# Altium integrated library Altera Cyclone.IntLib: 144 symbols (part 8 of 21)
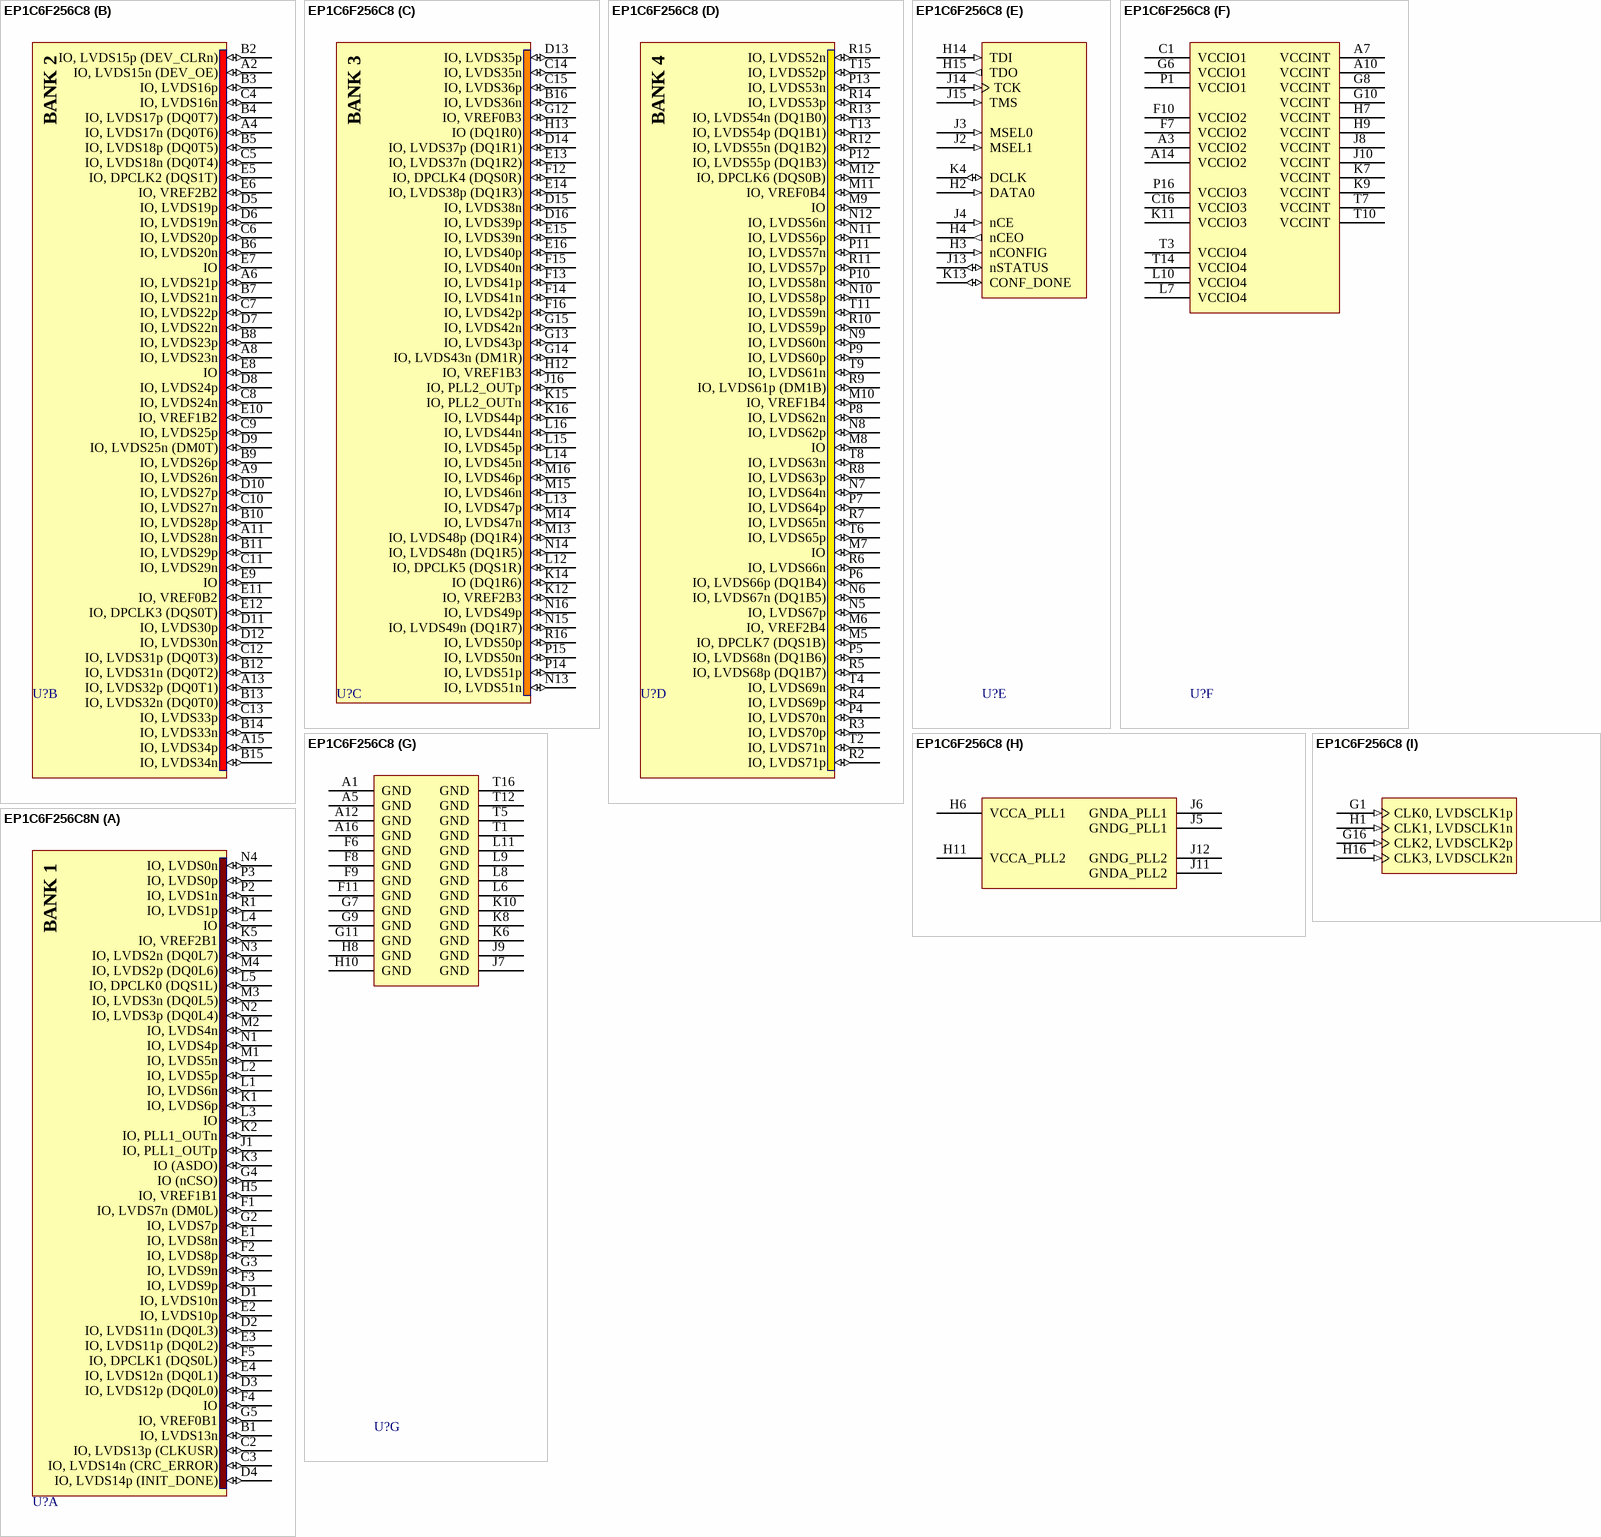
[diagram p160: symbols EP1C6F256C8 to EP1C6F256C8N]

## EP1C6F256C8
designator U?
Cyclone Family, 1.5V FPGA, 185 I/O Pins, 2 x PLLs, Commercial Grade, Speed Grade 8; DatasheetVersion: ver2.4, May-2008; PackageVersion: ver16.0, Dec-2009; PackageReference: FBGA256; PackageDescription: 256-Ball FineLine Ball Grid Array (FBGA256) - Option 1 - Wire Bond; Code_JEDEC: MS-034-AAF-1; Code_IPC: BGA100P16X16-256; ComponentLink1Description: Manufacturer URL; ComponentLink1URL: http://www.altera.com/; ComponentLink2Description: Handbook; ComponentLink2URL: http://www.altera.com/literature/hb/cyc/cyc_c5v1.pdf; ComponentLink3Description: Package Specification; ComponentLink3URL: http://www.altera.com/literature/ds/dspkg.pdf
footprint FBGA256 (BGA, 256-Leads, Body 17x17mm, Pitch 1mm)
part A pins: B1 IO, LVDS13n (io), C2 IO, LVDS13p (CLKUSR) (io), C3 IO, LVDS14n (CRC_ERROR) (io), D1 IO, LVDS10n (io), D2 IO, LVDS11n (DQ0L3) (io), D3 IO, LVDS12p (DQ0L0) (io), D4 IO, LVDS14p (INIT_DONE) (io), E1 IO, LVDS8n (io), E2 IO, LVDS10p (io), E3 IO, LVDS11p (DQ0L2) (io), E4 IO, LVDS12n (DQ0L1) (io), F1 IO, LVDS7n (DM0L) (io), F2 IO, LVDS8p (io), F3 IO, LVDS9p (io), F4 IO (io), F5 IO, DPCLK1 (DQS0L) (io), G2 IO, LVDS7p (io), G3 IO, LVDS9n (io), G4 IO (nCSO) (io), G5 IO, VREF0B1 (io), H5 IO, VREF1B1 (io), J1 IO, PLL1_OUTp (io), K1 IO, LVDS6p (io), K2 IO, PLL1_OUTn (io), K3 IO (ASDO) (io), K5 IO, VREF2B1 (io), L1 IO, LVDS6n (io), L2 IO, LVDS5p (io), L3 IO (io), L4 IO (io), L5 IO, DPCLK0 (DQS1L) (io), M1 IO, LVDS5n (io), M2 IO, LVDS4n (io), M3 IO, LVDS3n (DQ0L5) (io), M4 IO, LVDS2p (DQ0L6) (io), N1 IO, LVDS4p (io), N2 IO, LVDS3p (DQ0L4) (io), N3 IO, LVDS2n (DQ0L7) (io), N4 IO, LVDS0n (io), P2 IO, LVDS1n (io), P3 IO, LVDS0p (io), R1 IO, LVDS1p (io)
part B pins: A2 IO, LVDS15n (DEV_OE) (io), A4 IO, LVDS17n (DQ0T6) (io), A6 IO, LVDS21p (io), A8 IO, LVDS23n (io), A9 IO, LVDS26n (io), A11 IO, LVDS28n (io), A13 IO, LVDS32p (DQ0T1) (io), A15 IO, LVDS34p (io), B2 IO, LVDS15p (DEV_CLRn) (io), B3 IO, LVDS16p (io), B4 IO, LVDS17p (DQ0T7) (io), B5 IO, LVDS18p (DQ0T5) (io), B6 IO, LVDS20n (io), B7 IO, LVDS21n (io), B8 IO, LVDS23p (io), B9 IO, LVDS26p (io), B10 IO, LVDS28p (io), B11 IO, LVDS29p (io), B12 IO, LVDS31n (DQ0T2) (io), B13 IO, LVDS32n (DQ0T0) (io), B14 IO, LVDS33n (io), B15 IO, LVDS34n (io), C4 IO, LVDS16n (io), C5 IO, LVDS18n (DQ0T4) (io), C6 IO, LVDS20p (io), C7 IO, LVDS22p (io), C8 IO, LVDS24n (io), C9 IO, LVDS25p (io), C10 IO, LVDS27n (io), C11 IO, LVDS29n (io), C12 IO, LVDS31p (DQ0T3) (io), C13 IO, LVDS33p (io), D5 IO, LVDS19p (io), D6 IO, LVDS19n (io), D7 IO, LVDS22n (io), D8 IO, LVDS24p (io), D9 IO, LVDS25n (DM0T) (io), D10 IO, LVDS27p (io), D11 IO, LVDS30p (io), D12 IO, LVDS30n (io), E5 IO, DPCLK2 (DQS1T) (io), E6 IO, VREF2B2 (io), E7 IO (io), E8 IO (io), E9 IO (io), E10 IO, VREF1B2 (io), E11 IO, VREF0B2 (io), E12 IO, DPCLK3 (DQS0T) (io)
part C pins: B16 IO, LVDS36n (io), C14 IO, LVDS35n (io), C15 IO, LVDS36p (io), D13 IO, LVDS35p (io), D14 IO, LVDS37p (DQ1R1) (io), D15 IO, LVDS38n (io), D16 IO, LVDS39p (io), E13 IO, LVDS37n (DQ1R2) (io), E14 IO, LVDS38p (DQ1R3) (io), E15 IO, LVDS39n (io), E16 IO, LVDS40p (io), F12 IO, DPCLK4 (DQS0R) (io), F13 IO, LVDS41p (io), F14 IO, LVDS41n (io), F15 IO, LVDS40n (io), F16 IO, LVDS42p (io), G12 IO, VREF0B3 (io), G13 IO, LVDS43p (io), G14 IO, LVDS43n (DM1R) (io), G15 IO, LVDS42n (io), H12 IO, VREF1B3 (io), H13 IO (DQ1R0) (io), J16 IO, PLL2_OUTp (io), K12 IO, VREF2B3 (io), K14 IO (DQ1R6) (io), K15 IO, PLL2_OUTn (io), K16 IO, LVDS44p (io), L12 IO, DPCLK5 (DQS1R) (io), L13 IO, LVDS47p (io), L14 IO, LVDS45n (io), L15 IO, LVDS45p (io), L16 IO, LVDS44n (io), M13 IO, LVDS48p (DQ1R4) (io), M14 IO, LVDS47n (io), M15 IO, LVDS46n (io), M16 IO, LVDS46p (io), N13 IO, LVDS51n (io), N14 IO, LVDS48n (DQ1R5) (io), N15 IO, LVDS49n (DQ1R7) (io), N16 IO, LVDS49p (io), P14 IO, LVDS51p (io), P15 IO, LVDS50n (io), R16 IO, LVDS50p (io)
part D pins: M5 IO, DPCLK7 (DQS1B) (io), M6 IO, VREF2B4 (io), M7 IO (io), M8 IO (io), M9 IO (io), M10 IO, VREF1B4 (io), M11 IO, VREF0B4 (io), M12 IO, DPCLK6 (DQS0B) (io), N5 IO, LVDS67p (io), N6 IO, LVDS67n (DQ1B5) (io), N7 IO, LVDS64n (io), N8 IO, LVDS62p (io), N9 IO, LVDS60n (io), N10 IO, LVDS58p (io), N11 IO, LVDS56p (io), N12 IO, LVDS56n (io), P4 IO, LVDS70n (io), P5 IO, LVDS68n (DQ1B6) (io), P6 IO, LVDS66p (DQ1B4) (io), P7 IO, LVDS64p (io), P8 IO, LVDS62n (io), P9 IO, LVDS60p (io), P10 IO, LVDS58n (io), P11 IO, LVDS57n (io), P12 IO, LVDS55p (DQ1B3) (io), P13 IO, LVDS53n (io), R2 IO, LVDS71p (io), R3 IO, LVDS70p (io), R4 IO, LVDS69p (io), R5 IO, LVDS68p (DQ1B7) (io), R6 IO, LVDS66n (io), R7 IO, LVDS65n (io), R8 IO, LVDS63p (io), R9 IO, LVDS61p (DM1B) (io), R10 IO, LVDS59p (io), R11 IO, LVDS57p (io), R12 IO, LVDS55n (DQ1B2) (io), R13 IO, LVDS54n (DQ1B0) (io), R14 IO, LVDS53p (io), R15 IO, LVDS52n (io), T2 IO, LVDS71n (io), T4 IO, LVDS69n (io), T6 IO, LVDS65p (io), T8 IO, LVDS63n (io), T9 IO, LVDS61n (io), T11 IO, LVDS59n (io), T13 IO, LVDS54p (DQ1B1) (io), T15 IO, LVDS52p (io)
part E pins: H2 DATA0 (in), H3 nCONFIG (in), H4 nCEO (out), H14 TDI (in), H15 TDO (out), J2 MSEL1 (in), J3 MSEL0 (in), J4 nCE (in), J13 nSTATUS (io), J14 TCK (in), J15 TMS (in), K4 DCLK (io), K13 CONF_DONE (io)
part F pins: A3 VCCIO2 (power), A7 VCCINT (power), A10 VCCINT (power), A14 VCCIO2 (power), C1 VCCIO1 (power), C16 VCCIO3 (power), F7 VCCIO2 (power), F10 VCCIO2 (power), G6 VCCIO1 (power), G8 VCCINT (power), G10 VCCINT (power), H7 VCCINT (power), H9 VCCINT (power), J8 VCCINT (power), J10 VCCINT (power), K7 VCCINT (power), K9 VCCINT (power), K11 VCCIO3 (power), L7 VCCIO4 (power), L10 VCCIO4 (power), P1 VCCIO1 (power), P16 VCCIO3 (power), T3 VCCIO4 (power), T7 VCCINT (power), T10 VCCINT (power), T14 VCCIO4 (power)
part G pins: A1 GND (power), A5 GND (power), A12 GND (power), A16 GND (power), F6 GND (power), F8 GND (power), F9 GND (power), F11 GND (power), G7 GND (power), G9 GND (power), G11 GND (power), H8 GND (power), H10 GND (power), J7 GND (power), J9 GND (power), K6 GND (power), K8 GND (power), K10 GND (power), L6 GND (power), L8 GND (power), L9 GND (power), L11 GND (power), T1 GND (power), T5 GND (power), T12 GND (power), T16 GND (power)
part H pins: H6 VCCA_PLL1 (power), H11 VCCA_PLL2 (power), J5 GNDG_PLL1 (power), J6 GNDA_PLL1 (power), J11 GNDA_PLL2 (power), J12 GNDG_PLL2 (power)
part I pins: G1 CLK0, LVDSCLK1p (in), G16 CLK2, LVDSCLK2p (in), H1 CLK1, LVDSCLK1n (in), H16 CLK3, LVDSCLK2n (in)
part A text: BANK 1
part B text: BANK 2
part C text: BANK 3
part D text: BANK 4

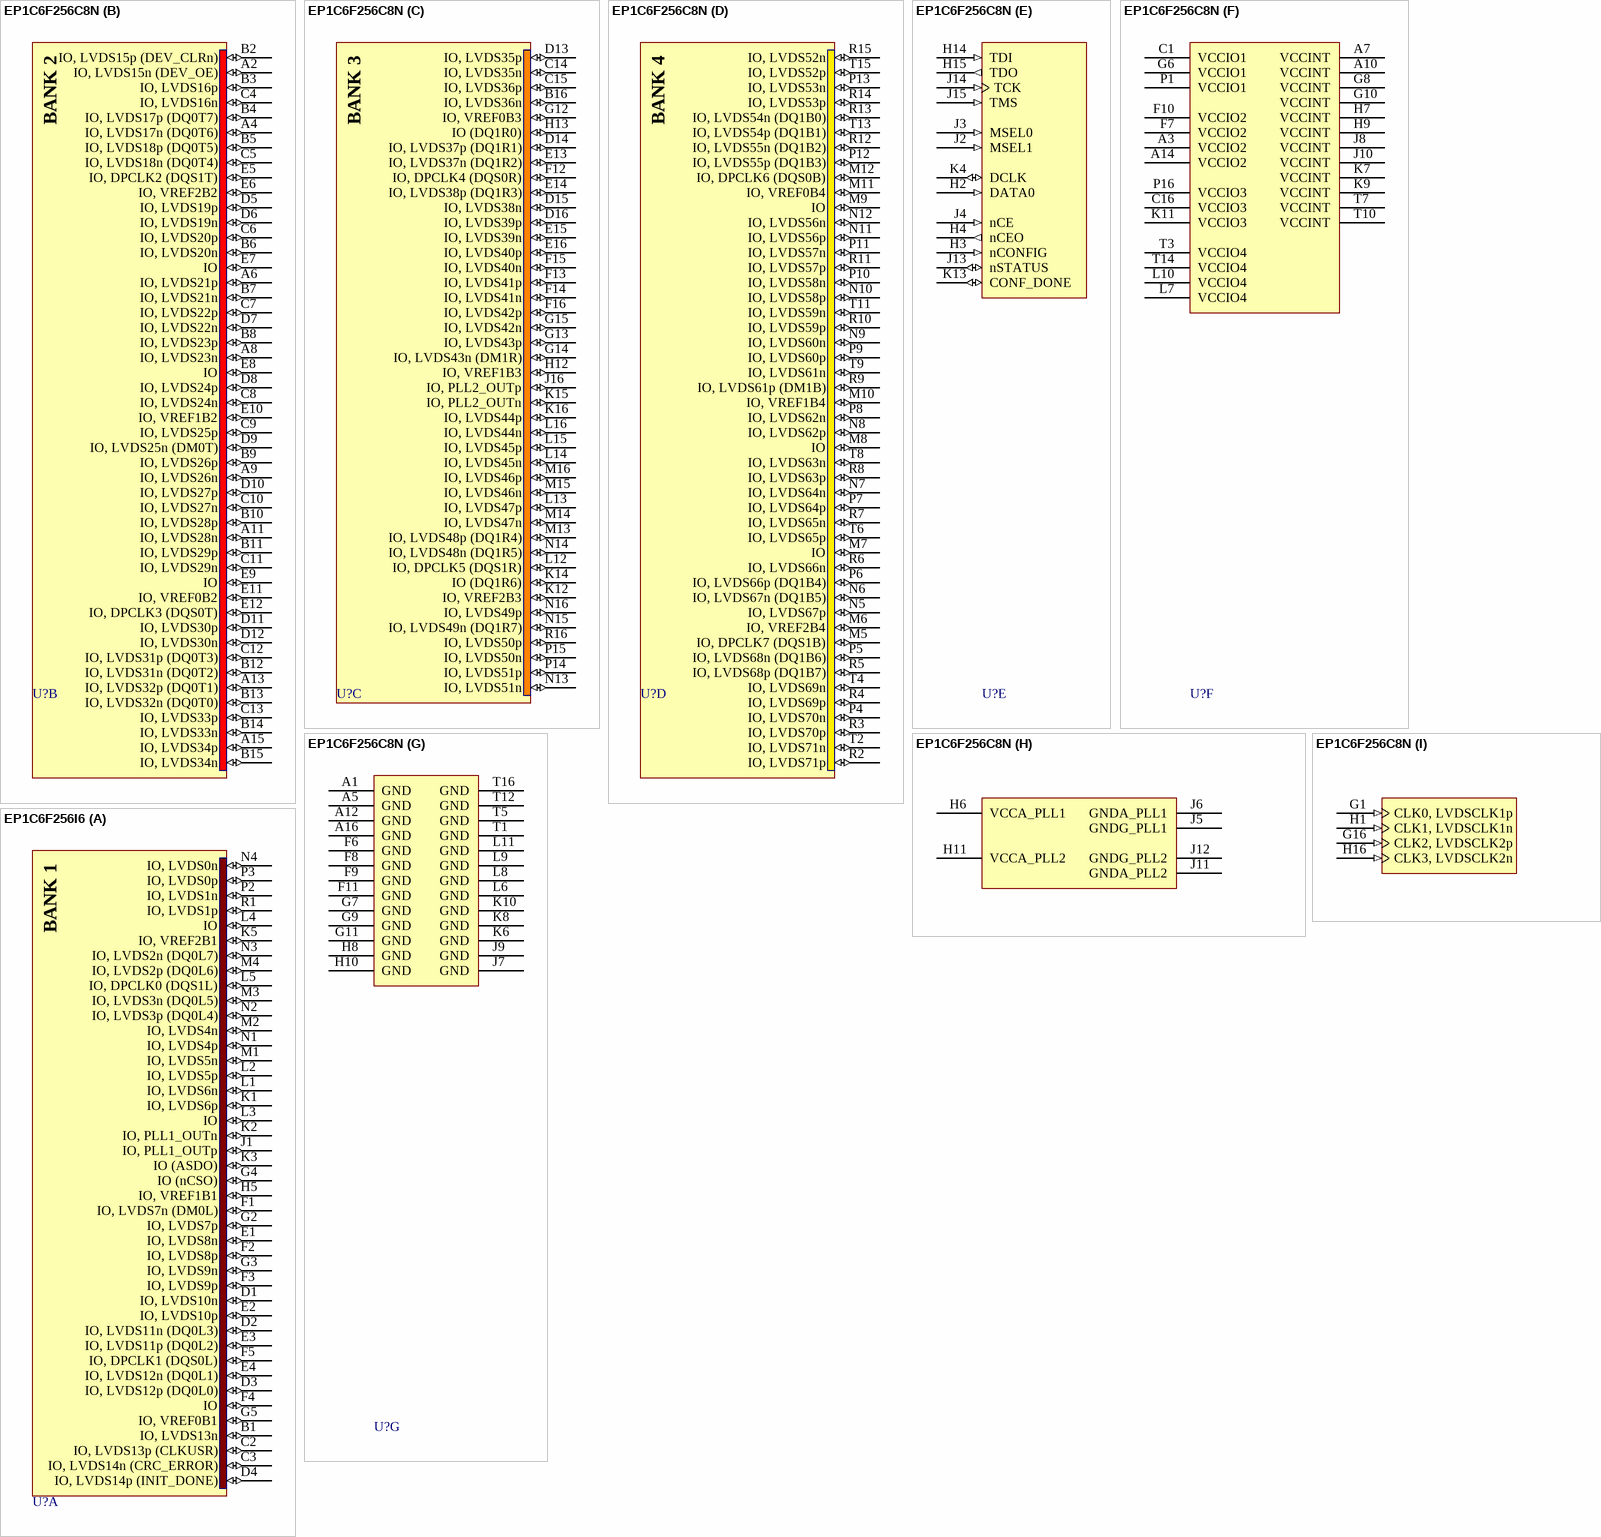
[diagram p53: symbols EP1C6F256C8N to EP1C6F256I6]

## EP1C6F256C8N
designator U?
Cyclone Family, 1.5V FPGA, 185 I/O Pins, 2 x PLLs, Commercial Grade, Speed Grade 8, Pb-Free; DatasheetVersion: ver2.4, May-2008; PackageVersion: ver16.0, Dec-2009; PackageReference: FBGA256; PackageDescription: 256-Ball FineLine Ball Grid Array (FBGA256) - Option 1 - Wire Bond; Code_JEDEC: MS-034-AAF-1; Code_IPC: BGA100P16X16-256; ComponentLink1Description: Manufacturer URL; ComponentLink1URL: http://www.altera.com/; ComponentLink2Description: Handbook; ComponentLink2URL: http://www.altera.com/literature/hb/cyc/cyc_c5v1.pdf; ComponentLink3Description: Package Specification; ComponentLink3URL: http://www.altera.com/literature/ds/dspkg.pdf
footprint FBGA256 (BGA, 256-Leads, Body 17x17mm, Pitch 1mm)
part A pins: B1 IO, LVDS13n (io), C2 IO, LVDS13p (CLKUSR) (io), C3 IO, LVDS14n (CRC_ERROR) (io), D1 IO, LVDS10n (io), D2 IO, LVDS11n (DQ0L3) (io), D3 IO, LVDS12p (DQ0L0) (io), D4 IO, LVDS14p (INIT_DONE) (io), E1 IO, LVDS8n (io), E2 IO, LVDS10p (io), E3 IO, LVDS11p (DQ0L2) (io), E4 IO, LVDS12n (DQ0L1) (io), F1 IO, LVDS7n (DM0L) (io), F2 IO, LVDS8p (io), F3 IO, LVDS9p (io), F4 IO (io), F5 IO, DPCLK1 (DQS0L) (io), G2 IO, LVDS7p (io), G3 IO, LVDS9n (io), G4 IO (nCSO) (io), G5 IO, VREF0B1 (io), H5 IO, VREF1B1 (io), J1 IO, PLL1_OUTp (io), K1 IO, LVDS6p (io), K2 IO, PLL1_OUTn (io), K3 IO (ASDO) (io), K5 IO, VREF2B1 (io), L1 IO, LVDS6n (io), L2 IO, LVDS5p (io), L3 IO (io), L4 IO (io), L5 IO, DPCLK0 (DQS1L) (io), M1 IO, LVDS5n (io), M2 IO, LVDS4n (io), M3 IO, LVDS3n (DQ0L5) (io), M4 IO, LVDS2p (DQ0L6) (io), N1 IO, LVDS4p (io), N2 IO, LVDS3p (DQ0L4) (io), N3 IO, LVDS2n (DQ0L7) (io), N4 IO, LVDS0n (io), P2 IO, LVDS1n (io), P3 IO, LVDS0p (io), R1 IO, LVDS1p (io)
part B pins: A2 IO, LVDS15n (DEV_OE) (io), A4 IO, LVDS17n (DQ0T6) (io), A6 IO, LVDS21p (io), A8 IO, LVDS23n (io), A9 IO, LVDS26n (io), A11 IO, LVDS28n (io), A13 IO, LVDS32p (DQ0T1) (io), A15 IO, LVDS34p (io), B2 IO, LVDS15p (DEV_CLRn) (io), B3 IO, LVDS16p (io), B4 IO, LVDS17p (DQ0T7) (io), B5 IO, LVDS18p (DQ0T5) (io), B6 IO, LVDS20n (io), B7 IO, LVDS21n (io), B8 IO, LVDS23p (io), B9 IO, LVDS26p (io), B10 IO, LVDS28p (io), B11 IO, LVDS29p (io), B12 IO, LVDS31n (DQ0T2) (io), B13 IO, LVDS32n (DQ0T0) (io), B14 IO, LVDS33n (io), B15 IO, LVDS34n (io), C4 IO, LVDS16n (io), C5 IO, LVDS18n (DQ0T4) (io), C6 IO, LVDS20p (io), C7 IO, LVDS22p (io), C8 IO, LVDS24n (io), C9 IO, LVDS25p (io), C10 IO, LVDS27n (io), C11 IO, LVDS29n (io), C12 IO, LVDS31p (DQ0T3) (io), C13 IO, LVDS33p (io), D5 IO, LVDS19p (io), D6 IO, LVDS19n (io), D7 IO, LVDS22n (io), D8 IO, LVDS24p (io), D9 IO, LVDS25n (DM0T) (io), D10 IO, LVDS27p (io), D11 IO, LVDS30p (io), D12 IO, LVDS30n (io), E5 IO, DPCLK2 (DQS1T) (io), E6 IO, VREF2B2 (io), E7 IO (io), E8 IO (io), E9 IO (io), E10 IO, VREF1B2 (io), E11 IO, VREF0B2 (io), E12 IO, DPCLK3 (DQS0T) (io)
part C pins: B16 IO, LVDS36n (io), C14 IO, LVDS35n (io), C15 IO, LVDS36p (io), D13 IO, LVDS35p (io), D14 IO, LVDS37p (DQ1R1) (io), D15 IO, LVDS38n (io), D16 IO, LVDS39p (io), E13 IO, LVDS37n (DQ1R2) (io), E14 IO, LVDS38p (DQ1R3) (io), E15 IO, LVDS39n (io), E16 IO, LVDS40p (io), F12 IO, DPCLK4 (DQS0R) (io), F13 IO, LVDS41p (io), F14 IO, LVDS41n (io), F15 IO, LVDS40n (io), F16 IO, LVDS42p (io), G12 IO, VREF0B3 (io), G13 IO, LVDS43p (io), G14 IO, LVDS43n (DM1R) (io), G15 IO, LVDS42n (io), H12 IO, VREF1B3 (io), H13 IO (DQ1R0) (io), J16 IO, PLL2_OUTp (io), K12 IO, VREF2B3 (io), K14 IO (DQ1R6) (io), K15 IO, PLL2_OUTn (io), K16 IO, LVDS44p (io), L12 IO, DPCLK5 (DQS1R) (io), L13 IO, LVDS47p (io), L14 IO, LVDS45n (io), L15 IO, LVDS45p (io), L16 IO, LVDS44n (io), M13 IO, LVDS48p (DQ1R4) (io), M14 IO, LVDS47n (io), M15 IO, LVDS46n (io), M16 IO, LVDS46p (io), N13 IO, LVDS51n (io), N14 IO, LVDS48n (DQ1R5) (io), N15 IO, LVDS49n (DQ1R7) (io), N16 IO, LVDS49p (io), P14 IO, LVDS51p (io), P15 IO, LVDS50n (io), R16 IO, LVDS50p (io)
part D pins: M5 IO, DPCLK7 (DQS1B) (io), M6 IO, VREF2B4 (io), M7 IO (io), M8 IO (io), M9 IO (io), M10 IO, VREF1B4 (io), M11 IO, VREF0B4 (io), M12 IO, DPCLK6 (DQS0B) (io), N5 IO, LVDS67p (io), N6 IO, LVDS67n (DQ1B5) (io), N7 IO, LVDS64n (io), N8 IO, LVDS62p (io), N9 IO, LVDS60n (io), N10 IO, LVDS58p (io), N11 IO, LVDS56p (io), N12 IO, LVDS56n (io), P4 IO, LVDS70n (io), P5 IO, LVDS68n (DQ1B6) (io), P6 IO, LVDS66p (DQ1B4) (io), P7 IO, LVDS64p (io), P8 IO, LVDS62n (io), P9 IO, LVDS60p (io), P10 IO, LVDS58n (io), P11 IO, LVDS57n (io), P12 IO, LVDS55p (DQ1B3) (io), P13 IO, LVDS53n (io), R2 IO, LVDS71p (io), R3 IO, LVDS70p (io), R4 IO, LVDS69p (io), R5 IO, LVDS68p (DQ1B7) (io), R6 IO, LVDS66n (io), R7 IO, LVDS65n (io), R8 IO, LVDS63p (io), R9 IO, LVDS61p (DM1B) (io), R10 IO, LVDS59p (io), R11 IO, LVDS57p (io), R12 IO, LVDS55n (DQ1B2) (io), R13 IO, LVDS54n (DQ1B0) (io), R14 IO, LVDS53p (io), R15 IO, LVDS52n (io), T2 IO, LVDS71n (io), T4 IO, LVDS69n (io), T6 IO, LVDS65p (io), T8 IO, LVDS63n (io), T9 IO, LVDS61n (io), T11 IO, LVDS59n (io), T13 IO, LVDS54p (DQ1B1) (io), T15 IO, LVDS52p (io)
part E pins: H2 DATA0 (in), H3 nCONFIG (in), H4 nCEO (out), H14 TDI (in), H15 TDO (out), J2 MSEL1 (in), J3 MSEL0 (in), J4 nCE (in), J13 nSTATUS (io), J14 TCK (in), J15 TMS (in), K4 DCLK (io), K13 CONF_DONE (io)
part F pins: A3 VCCIO2 (power), A7 VCCINT (power), A10 VCCINT (power), A14 VCCIO2 (power), C1 VCCIO1 (power), C16 VCCIO3 (power), F7 VCCIO2 (power), F10 VCCIO2 (power), G6 VCCIO1 (power), G8 VCCINT (power), G10 VCCINT (power), H7 VCCINT (power), H9 VCCINT (power), J8 VCCINT (power), J10 VCCINT (power), K7 VCCINT (power), K9 VCCINT (power), K11 VCCIO3 (power), L7 VCCIO4 (power), L10 VCCIO4 (power), P1 VCCIO1 (power), P16 VCCIO3 (power), T3 VCCIO4 (power), T7 VCCINT (power), T10 VCCINT (power), T14 VCCIO4 (power)
part G pins: A1 GND (power), A5 GND (power), A12 GND (power), A16 GND (power), F6 GND (power), F8 GND (power), F9 GND (power), F11 GND (power), G7 GND (power), G9 GND (power), G11 GND (power), H8 GND (power), H10 GND (power), J7 GND (power), J9 GND (power), K6 GND (power), K8 GND (power), K10 GND (power), L6 GND (power), L8 GND (power), L9 GND (power), L11 GND (power), T1 GND (power), T5 GND (power), T12 GND (power), T16 GND (power)
part H pins: H6 VCCA_PLL1 (power), H11 VCCA_PLL2 (power), J5 GNDG_PLL1 (power), J6 GNDA_PLL1 (power), J11 GNDA_PLL2 (power), J12 GNDG_PLL2 (power)
part I pins: G1 CLK0, LVDSCLK1p (in), G16 CLK2, LVDSCLK2p (in), H1 CLK1, LVDSCLK1n (in), H16 CLK3, LVDSCLK2n (in)
part A text: BANK 1
part B text: BANK 2
part C text: BANK 3
part D text: BANK 4

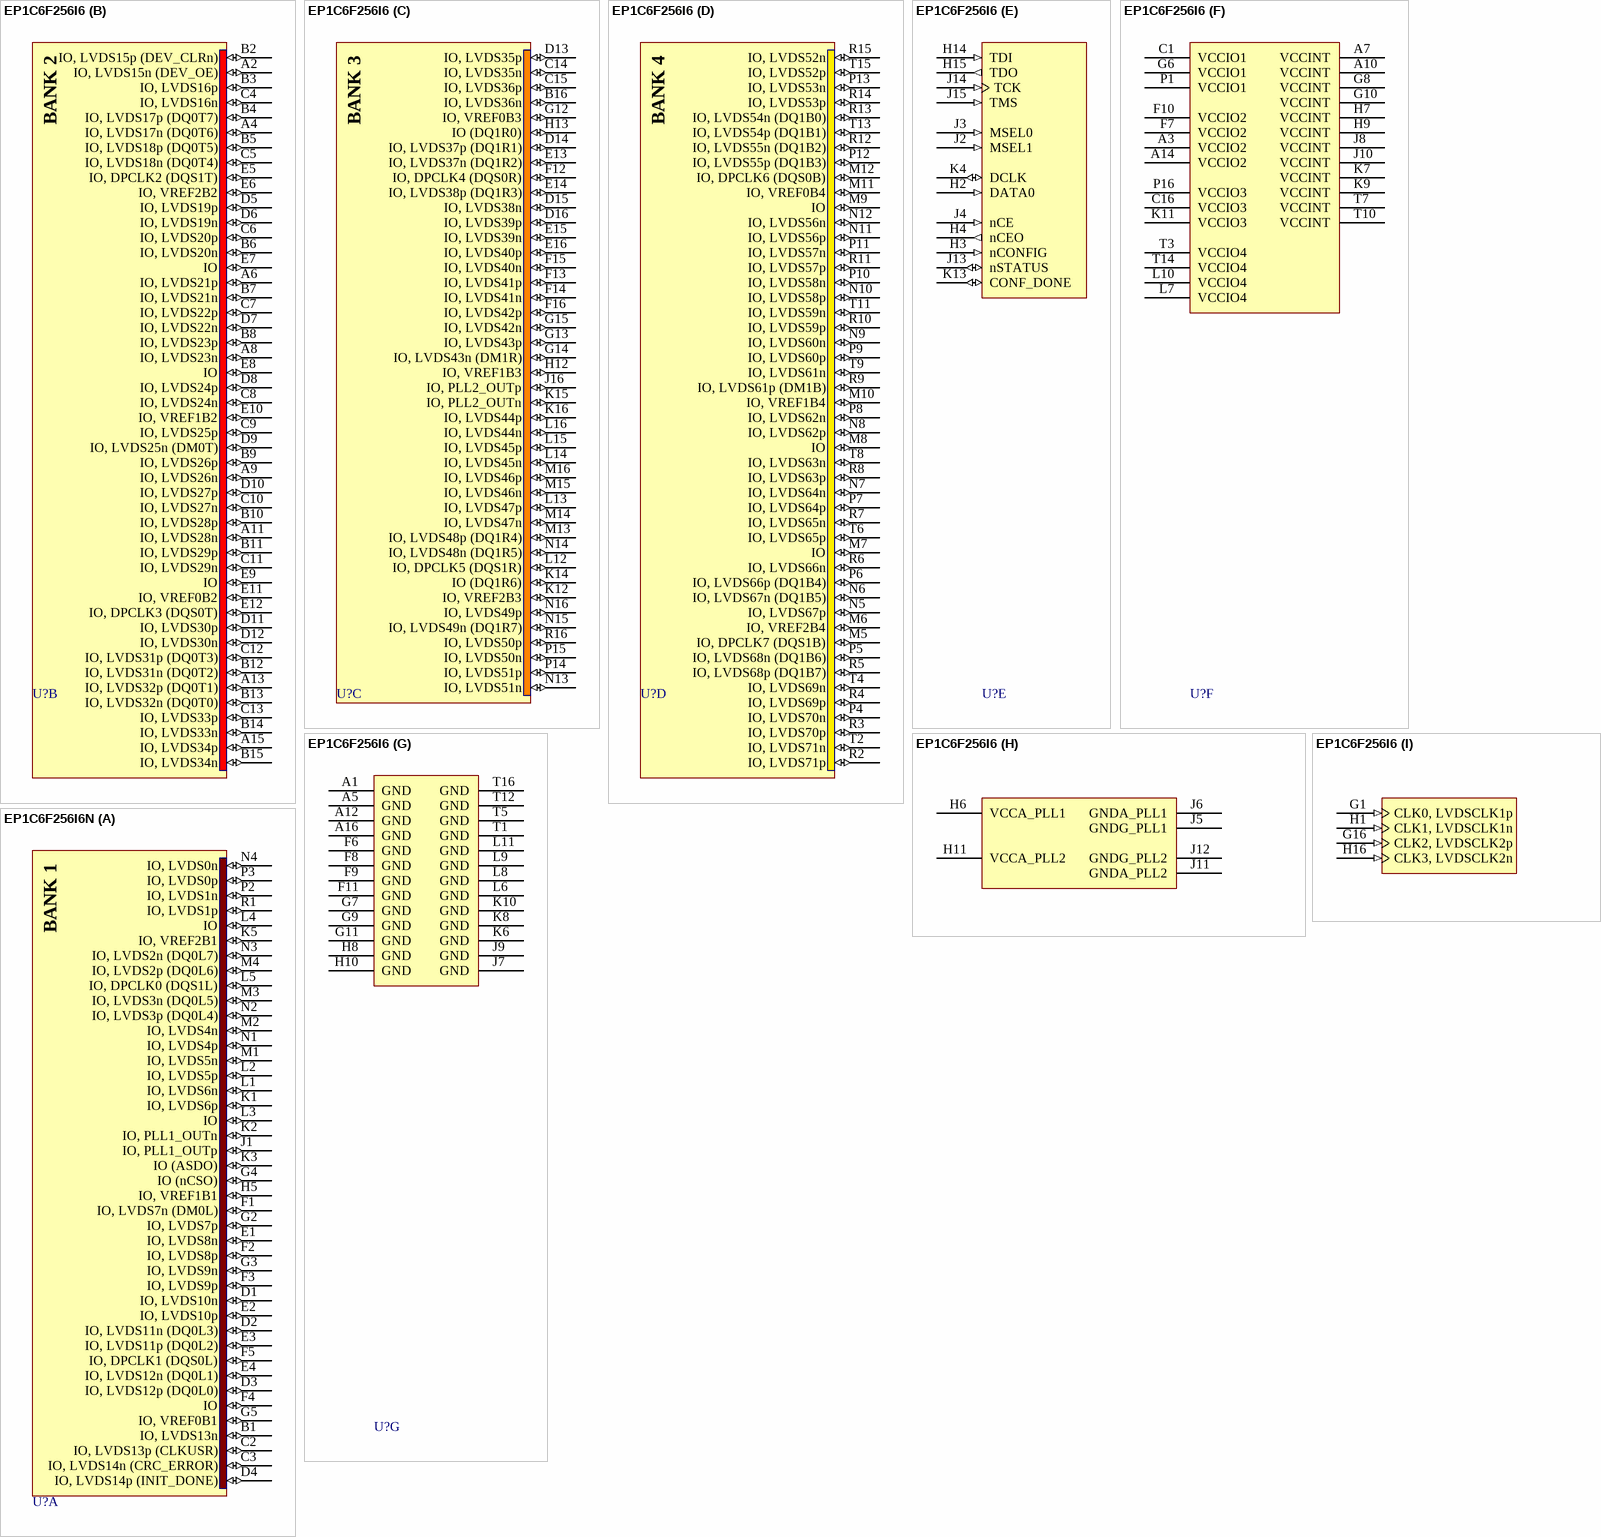
[diagram p54: symbols EP1C6F256I6 to EP1C6F256I6N]

## EP1C6F256I6
designator U?
Cyclone Family, 1.5V FPGA, 185 I/O Pins, 2 x PLLs, Industrial Grade, Speed Grade 6; DatasheetVersion: ver2.4, May-2008; PackageVersion: ver16.0, Dec-2009; PackageReference: FBGA256; PackageDescription: 256-Ball FineLine Ball Grid Array (FBGA256) - Option 1 - Wire Bond; Code_JEDEC: MS-034-AAF-1; Code_IPC: BGA100P16X16-256; ComponentLink1Description: Manufacturer URL; ComponentLink1URL: http://www.altera.com/; ComponentLink2Description: Handbook; ComponentLink2URL: http://www.altera.com/literature/hb/cyc/cyc_c5v1.pdf; ComponentLink3Description: Package Specification; ComponentLink3URL: http://www.altera.com/literature/ds/dspkg.pdf
footprint FBGA256 (BGA, 256-Leads, Body 17x17mm, Pitch 1mm)
part A pins: B1 IO, LVDS13n (io), C2 IO, LVDS13p (CLKUSR) (io), C3 IO, LVDS14n (CRC_ERROR) (io), D1 IO, LVDS10n (io), D2 IO, LVDS11n (DQ0L3) (io), D3 IO, LVDS12p (DQ0L0) (io), D4 IO, LVDS14p (INIT_DONE) (io), E1 IO, LVDS8n (io), E2 IO, LVDS10p (io), E3 IO, LVDS11p (DQ0L2) (io), E4 IO, LVDS12n (DQ0L1) (io), F1 IO, LVDS7n (DM0L) (io), F2 IO, LVDS8p (io), F3 IO, LVDS9p (io), F4 IO (io), F5 IO, DPCLK1 (DQS0L) (io), G2 IO, LVDS7p (io), G3 IO, LVDS9n (io), G4 IO (nCSO) (io), G5 IO, VREF0B1 (io), H5 IO, VREF1B1 (io), J1 IO, PLL1_OUTp (io), K1 IO, LVDS6p (io), K2 IO, PLL1_OUTn (io), K3 IO (ASDO) (io), K5 IO, VREF2B1 (io), L1 IO, LVDS6n (io), L2 IO, LVDS5p (io), L3 IO (io), L4 IO (io), L5 IO, DPCLK0 (DQS1L) (io), M1 IO, LVDS5n (io), M2 IO, LVDS4n (io), M3 IO, LVDS3n (DQ0L5) (io), M4 IO, LVDS2p (DQ0L6) (io), N1 IO, LVDS4p (io), N2 IO, LVDS3p (DQ0L4) (io), N3 IO, LVDS2n (DQ0L7) (io), N4 IO, LVDS0n (io), P2 IO, LVDS1n (io), P3 IO, LVDS0p (io), R1 IO, LVDS1p (io)
part B pins: A2 IO, LVDS15n (DEV_OE) (io), A4 IO, LVDS17n (DQ0T6) (io), A6 IO, LVDS21p (io), A8 IO, LVDS23n (io), A9 IO, LVDS26n (io), A11 IO, LVDS28n (io), A13 IO, LVDS32p (DQ0T1) (io), A15 IO, LVDS34p (io), B2 IO, LVDS15p (DEV_CLRn) (io), B3 IO, LVDS16p (io), B4 IO, LVDS17p (DQ0T7) (io), B5 IO, LVDS18p (DQ0T5) (io), B6 IO, LVDS20n (io), B7 IO, LVDS21n (io), B8 IO, LVDS23p (io), B9 IO, LVDS26p (io), B10 IO, LVDS28p (io), B11 IO, LVDS29p (io), B12 IO, LVDS31n (DQ0T2) (io), B13 IO, LVDS32n (DQ0T0) (io), B14 IO, LVDS33n (io), B15 IO, LVDS34n (io), C4 IO, LVDS16n (io), C5 IO, LVDS18n (DQ0T4) (io), C6 IO, LVDS20p (io), C7 IO, LVDS22p (io), C8 IO, LVDS24n (io), C9 IO, LVDS25p (io), C10 IO, LVDS27n (io), C11 IO, LVDS29n (io), C12 IO, LVDS31p (DQ0T3) (io), C13 IO, LVDS33p (io), D5 IO, LVDS19p (io), D6 IO, LVDS19n (io), D7 IO, LVDS22n (io), D8 IO, LVDS24p (io), D9 IO, LVDS25n (DM0T) (io), D10 IO, LVDS27p (io), D11 IO, LVDS30p (io), D12 IO, LVDS30n (io), E5 IO, DPCLK2 (DQS1T) (io), E6 IO, VREF2B2 (io), E7 IO (io), E8 IO (io), E9 IO (io), E10 IO, VREF1B2 (io), E11 IO, VREF0B2 (io), E12 IO, DPCLK3 (DQS0T) (io)
part C pins: B16 IO, LVDS36n (io), C14 IO, LVDS35n (io), C15 IO, LVDS36p (io), D13 IO, LVDS35p (io), D14 IO, LVDS37p (DQ1R1) (io), D15 IO, LVDS38n (io), D16 IO, LVDS39p (io), E13 IO, LVDS37n (DQ1R2) (io), E14 IO, LVDS38p (DQ1R3) (io), E15 IO, LVDS39n (io), E16 IO, LVDS40p (io), F12 IO, DPCLK4 (DQS0R) (io), F13 IO, LVDS41p (io), F14 IO, LVDS41n (io), F15 IO, LVDS40n (io), F16 IO, LVDS42p (io), G12 IO, VREF0B3 (io), G13 IO, LVDS43p (io), G14 IO, LVDS43n (DM1R) (io), G15 IO, LVDS42n (io), H12 IO, VREF1B3 (io), H13 IO (DQ1R0) (io), J16 IO, PLL2_OUTp (io), K12 IO, VREF2B3 (io), K14 IO (DQ1R6) (io), K15 IO, PLL2_OUTn (io), K16 IO, LVDS44p (io), L12 IO, DPCLK5 (DQS1R) (io), L13 IO, LVDS47p (io), L14 IO, LVDS45n (io), L15 IO, LVDS45p (io), L16 IO, LVDS44n (io), M13 IO, LVDS48p (DQ1R4) (io), M14 IO, LVDS47n (io), M15 IO, LVDS46n (io), M16 IO, LVDS46p (io), N13 IO, LVDS51n (io), N14 IO, LVDS48n (DQ1R5) (io), N15 IO, LVDS49n (DQ1R7) (io), N16 IO, LVDS49p (io), P14 IO, LVDS51p (io), P15 IO, LVDS50n (io), R16 IO, LVDS50p (io)
part D pins: M5 IO, DPCLK7 (DQS1B) (io), M6 IO, VREF2B4 (io), M7 IO (io), M8 IO (io), M9 IO (io), M10 IO, VREF1B4 (io), M11 IO, VREF0B4 (io), M12 IO, DPCLK6 (DQS0B) (io), N5 IO, LVDS67p (io), N6 IO, LVDS67n (DQ1B5) (io), N7 IO, LVDS64n (io), N8 IO, LVDS62p (io), N9 IO, LVDS60n (io), N10 IO, LVDS58p (io), N11 IO, LVDS56p (io), N12 IO, LVDS56n (io), P4 IO, LVDS70n (io), P5 IO, LVDS68n (DQ1B6) (io), P6 IO, LVDS66p (DQ1B4) (io), P7 IO, LVDS64p (io), P8 IO, LVDS62n (io), P9 IO, LVDS60p (io), P10 IO, LVDS58n (io), P11 IO, LVDS57n (io), P12 IO, LVDS55p (DQ1B3) (io), P13 IO, LVDS53n (io), R2 IO, LVDS71p (io), R3 IO, LVDS70p (io), R4 IO, LVDS69p (io), R5 IO, LVDS68p (DQ1B7) (io), R6 IO, LVDS66n (io), R7 IO, LVDS65n (io), R8 IO, LVDS63p (io), R9 IO, LVDS61p (DM1B) (io), R10 IO, LVDS59p (io), R11 IO, LVDS57p (io), R12 IO, LVDS55n (DQ1B2) (io), R13 IO, LVDS54n (DQ1B0) (io), R14 IO, LVDS53p (io), R15 IO, LVDS52n (io), T2 IO, LVDS71n (io), T4 IO, LVDS69n (io), T6 IO, LVDS65p (io), T8 IO, LVDS63n (io), T9 IO, LVDS61n (io), T11 IO, LVDS59n (io), T13 IO, LVDS54p (DQ1B1) (io), T15 IO, LVDS52p (io)
part E pins: H2 DATA0 (in), H3 nCONFIG (in), H4 nCEO (out), H14 TDI (in), H15 TDO (out), J2 MSEL1 (in), J3 MSEL0 (in), J4 nCE (in), J13 nSTATUS (io), J14 TCK (in), J15 TMS (in), K4 DCLK (io), K13 CONF_DONE (io)
part F pins: A3 VCCIO2 (power), A7 VCCINT (power), A10 VCCINT (power), A14 VCCIO2 (power), C1 VCCIO1 (power), C16 VCCIO3 (power), F7 VCCIO2 (power), F10 VCCIO2 (power), G6 VCCIO1 (power), G8 VCCINT (power), G10 VCCINT (power), H7 VCCINT (power), H9 VCCINT (power), J8 VCCINT (power), J10 VCCINT (power), K7 VCCINT (power), K9 VCCINT (power), K11 VCCIO3 (power), L7 VCCIO4 (power), L10 VCCIO4 (power), P1 VCCIO1 (power), P16 VCCIO3 (power), T3 VCCIO4 (power), T7 VCCINT (power), T10 VCCINT (power), T14 VCCIO4 (power)
part G pins: A1 GND (power), A5 GND (power), A12 GND (power), A16 GND (power), F6 GND (power), F8 GND (power), F9 GND (power), F11 GND (power), G7 GND (power), G9 GND (power), G11 GND (power), H8 GND (power), H10 GND (power), J7 GND (power), J9 GND (power), K6 GND (power), K8 GND (power), K10 GND (power), L6 GND (power), L8 GND (power), L9 GND (power), L11 GND (power), T1 GND (power), T5 GND (power), T12 GND (power), T16 GND (power)
part H pins: H6 VCCA_PLL1 (power), H11 VCCA_PLL2 (power), J5 GNDG_PLL1 (power), J6 GNDA_PLL1 (power), J11 GNDA_PLL2 (power), J12 GNDG_PLL2 (power)
part I pins: G1 CLK0, LVDSCLK1p (in), G16 CLK2, LVDSCLK2p (in), H1 CLK1, LVDSCLK1n (in), H16 CLK3, LVDSCLK2n (in)
part A text: BANK 1
part B text: BANK 2
part C text: BANK 3
part D text: BANK 4

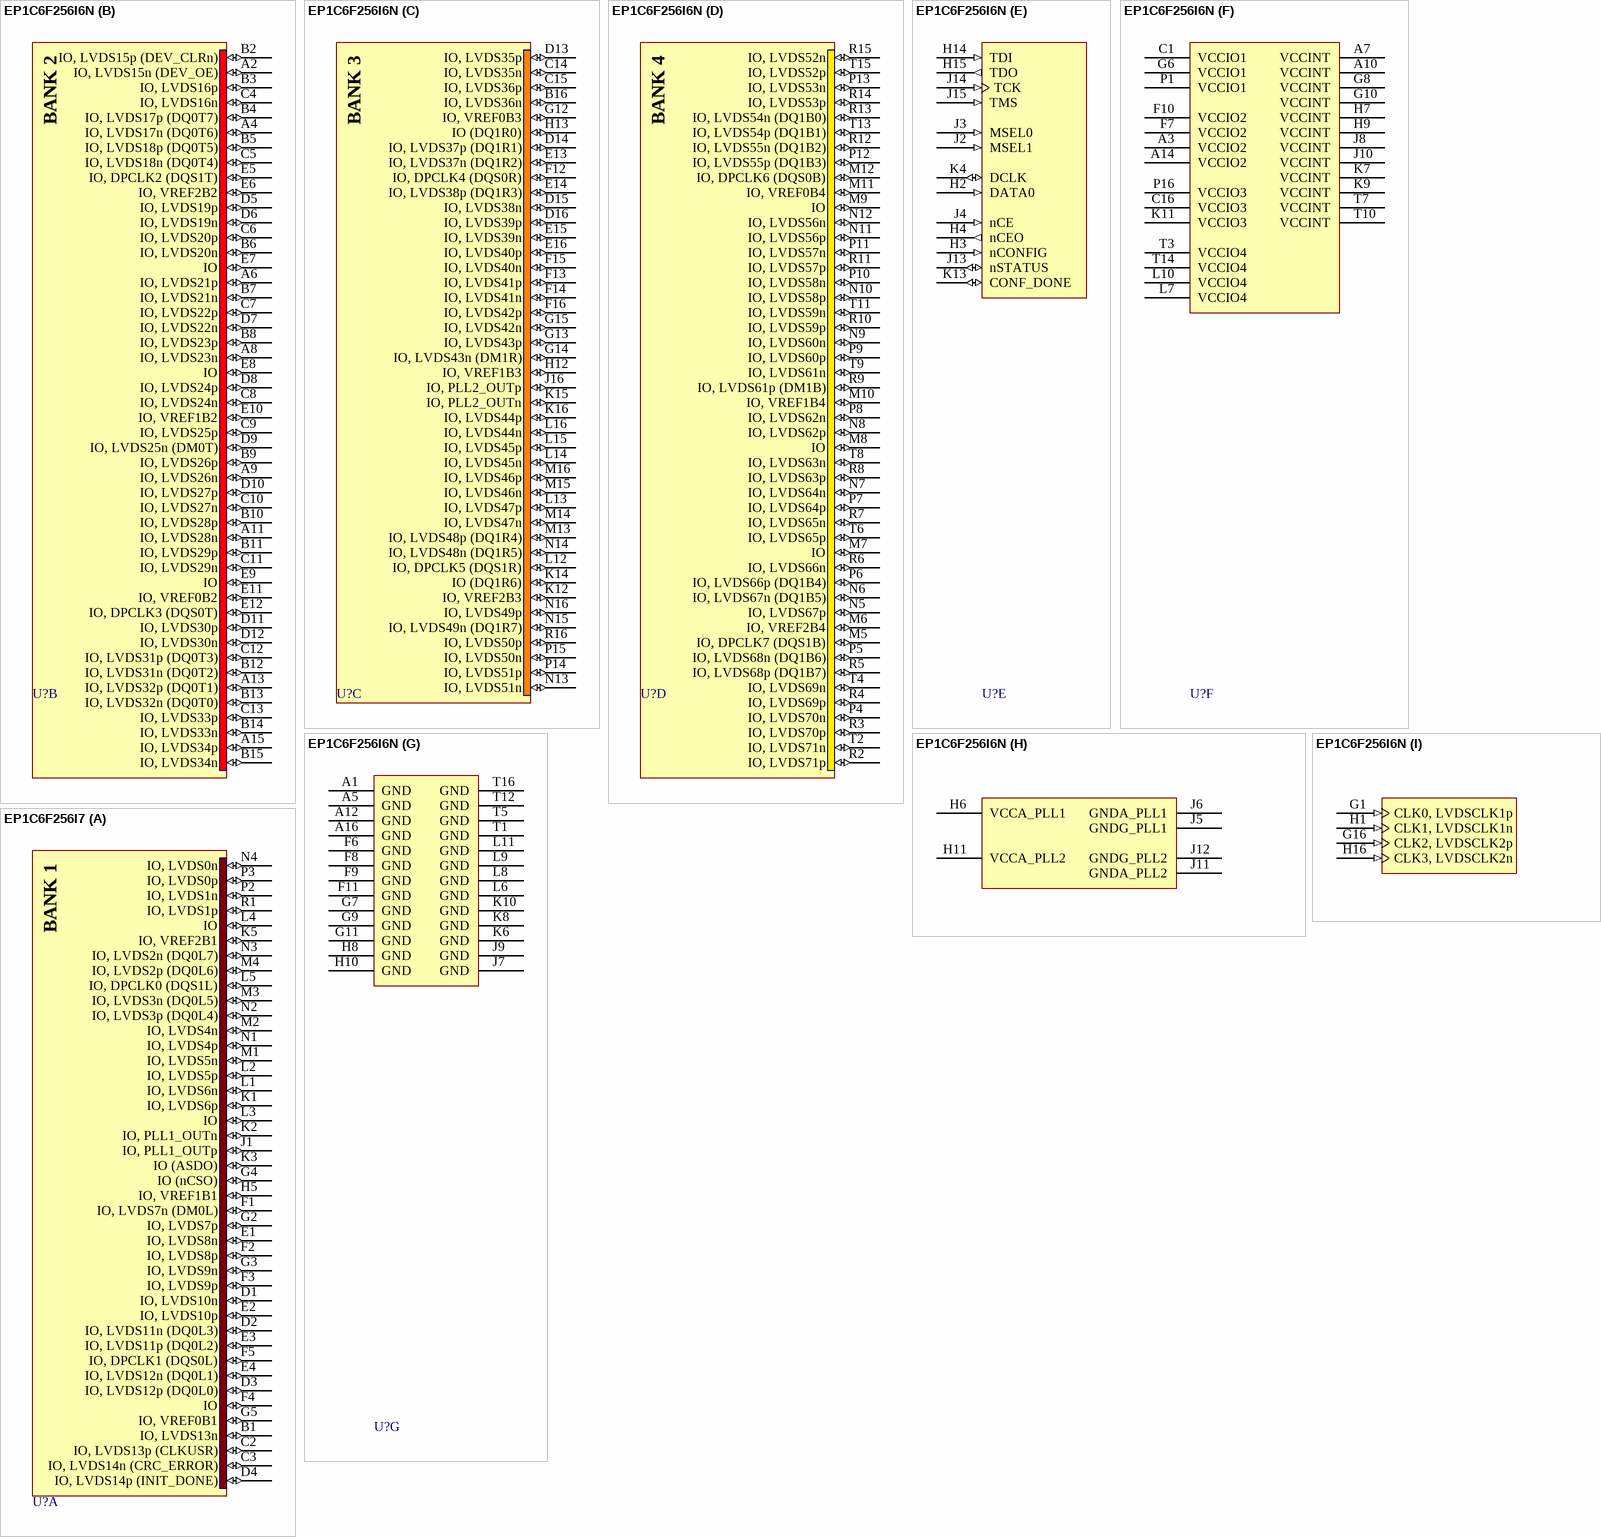
[diagram p55: symbols EP1C6F256I6N to EP1C6F256I7]

## EP1C6F256I6N
designator U?
Cyclone Family, 1.5V FPGA, 185 I/O Pins, 2 x PLLs, Industrial Grade, Speed Grade 6, Pb-Free; DatasheetVersion: ver2.4, May-2008; PackageVersion: ver16.0, Dec-2009; PackageReference: FBGA256; PackageDescription: 256-Ball FineLine Ball Grid Array (FBGA256) - Option 1 - Wire Bond; Code_JEDEC: MS-034-AAF-1; Code_IPC: BGA100P16X16-256; ComponentLink1Description: Manufacturer URL; ComponentLink1URL: http://www.altera.com/; ComponentLink2Description: Handbook; ComponentLink2URL: http://www.altera.com/literature/hb/cyc/cyc_c5v1.pdf; ComponentLink3Description: Package Specification; ComponentLink3URL: http://www.altera.com/literature/ds/dspkg.pdf
footprint FBGA256 (BGA, 256-Leads, Body 17x17mm, Pitch 1mm)
part A pins: B1 IO, LVDS13n (io), C2 IO, LVDS13p (CLKUSR) (io), C3 IO, LVDS14n (CRC_ERROR) (io), D1 IO, LVDS10n (io), D2 IO, LVDS11n (DQ0L3) (io), D3 IO, LVDS12p (DQ0L0) (io), D4 IO, LVDS14p (INIT_DONE) (io), E1 IO, LVDS8n (io), E2 IO, LVDS10p (io), E3 IO, LVDS11p (DQ0L2) (io), E4 IO, LVDS12n (DQ0L1) (io), F1 IO, LVDS7n (DM0L) (io), F2 IO, LVDS8p (io), F3 IO, LVDS9p (io), F4 IO (io), F5 IO, DPCLK1 (DQS0L) (io), G2 IO, LVDS7p (io), G3 IO, LVDS9n (io), G4 IO (nCSO) (io), G5 IO, VREF0B1 (io), H5 IO, VREF1B1 (io), J1 IO, PLL1_OUTp (io), K1 IO, LVDS6p (io), K2 IO, PLL1_OUTn (io), K3 IO (ASDO) (io), K5 IO, VREF2B1 (io), L1 IO, LVDS6n (io), L2 IO, LVDS5p (io), L3 IO (io), L4 IO (io), L5 IO, DPCLK0 (DQS1L) (io), M1 IO, LVDS5n (io), M2 IO, LVDS4n (io), M3 IO, LVDS3n (DQ0L5) (io), M4 IO, LVDS2p (DQ0L6) (io), N1 IO, LVDS4p (io), N2 IO, LVDS3p (DQ0L4) (io), N3 IO, LVDS2n (DQ0L7) (io), N4 IO, LVDS0n (io), P2 IO, LVDS1n (io), P3 IO, LVDS0p (io), R1 IO, LVDS1p (io)
part B pins: A2 IO, LVDS15n (DEV_OE) (io), A4 IO, LVDS17n (DQ0T6) (io), A6 IO, LVDS21p (io), A8 IO, LVDS23n (io), A9 IO, LVDS26n (io), A11 IO, LVDS28n (io), A13 IO, LVDS32p (DQ0T1) (io), A15 IO, LVDS34p (io), B2 IO, LVDS15p (DEV_CLRn) (io), B3 IO, LVDS16p (io), B4 IO, LVDS17p (DQ0T7) (io), B5 IO, LVDS18p (DQ0T5) (io), B6 IO, LVDS20n (io), B7 IO, LVDS21n (io), B8 IO, LVDS23p (io), B9 IO, LVDS26p (io), B10 IO, LVDS28p (io), B11 IO, LVDS29p (io), B12 IO, LVDS31n (DQ0T2) (io), B13 IO, LVDS32n (DQ0T0) (io), B14 IO, LVDS33n (io), B15 IO, LVDS34n (io), C4 IO, LVDS16n (io), C5 IO, LVDS18n (DQ0T4) (io), C6 IO, LVDS20p (io), C7 IO, LVDS22p (io), C8 IO, LVDS24n (io), C9 IO, LVDS25p (io), C10 IO, LVDS27n (io), C11 IO, LVDS29n (io), C12 IO, LVDS31p (DQ0T3) (io), C13 IO, LVDS33p (io), D5 IO, LVDS19p (io), D6 IO, LVDS19n (io), D7 IO, LVDS22n (io), D8 IO, LVDS24p (io), D9 IO, LVDS25n (DM0T) (io), D10 IO, LVDS27p (io), D11 IO, LVDS30p (io), D12 IO, LVDS30n (io), E5 IO, DPCLK2 (DQS1T) (io), E6 IO, VREF2B2 (io), E7 IO (io), E8 IO (io), E9 IO (io), E10 IO, VREF1B2 (io), E11 IO, VREF0B2 (io), E12 IO, DPCLK3 (DQS0T) (io)
part C pins: B16 IO, LVDS36n (io), C14 IO, LVDS35n (io), C15 IO, LVDS36p (io), D13 IO, LVDS35p (io), D14 IO, LVDS37p (DQ1R1) (io), D15 IO, LVDS38n (io), D16 IO, LVDS39p (io), E13 IO, LVDS37n (DQ1R2) (io), E14 IO, LVDS38p (DQ1R3) (io), E15 IO, LVDS39n (io), E16 IO, LVDS40p (io), F12 IO, DPCLK4 (DQS0R) (io), F13 IO, LVDS41p (io), F14 IO, LVDS41n (io), F15 IO, LVDS40n (io), F16 IO, LVDS42p (io), G12 IO, VREF0B3 (io), G13 IO, LVDS43p (io), G14 IO, LVDS43n (DM1R) (io), G15 IO, LVDS42n (io), H12 IO, VREF1B3 (io), H13 IO (DQ1R0) (io), J16 IO, PLL2_OUTp (io), K12 IO, VREF2B3 (io), K14 IO (DQ1R6) (io), K15 IO, PLL2_OUTn (io), K16 IO, LVDS44p (io), L12 IO, DPCLK5 (DQS1R) (io), L13 IO, LVDS47p (io), L14 IO, LVDS45n (io), L15 IO, LVDS45p (io), L16 IO, LVDS44n (io), M13 IO, LVDS48p (DQ1R4) (io), M14 IO, LVDS47n (io), M15 IO, LVDS46n (io), M16 IO, LVDS46p (io), N13 IO, LVDS51n (io), N14 IO, LVDS48n (DQ1R5) (io), N15 IO, LVDS49n (DQ1R7) (io), N16 IO, LVDS49p (io), P14 IO, LVDS51p (io), P15 IO, LVDS50n (io), R16 IO, LVDS50p (io)
part D pins: M5 IO, DPCLK7 (DQS1B) (io), M6 IO, VREF2B4 (io), M7 IO (io), M8 IO (io), M9 IO (io), M10 IO, VREF1B4 (io), M11 IO, VREF0B4 (io), M12 IO, DPCLK6 (DQS0B) (io), N5 IO, LVDS67p (io), N6 IO, LVDS67n (DQ1B5) (io), N7 IO, LVDS64n (io), N8 IO, LVDS62p (io), N9 IO, LVDS60n (io), N10 IO, LVDS58p (io), N11 IO, LVDS56p (io), N12 IO, LVDS56n (io), P4 IO, LVDS70n (io), P5 IO, LVDS68n (DQ1B6) (io), P6 IO, LVDS66p (DQ1B4) (io), P7 IO, LVDS64p (io), P8 IO, LVDS62n (io), P9 IO, LVDS60p (io), P10 IO, LVDS58n (io), P11 IO, LVDS57n (io), P12 IO, LVDS55p (DQ1B3) (io), P13 IO, LVDS53n (io), R2 IO, LVDS71p (io), R3 IO, LVDS70p (io), R4 IO, LVDS69p (io), R5 IO, LVDS68p (DQ1B7) (io), R6 IO, LVDS66n (io), R7 IO, LVDS65n (io), R8 IO, LVDS63p (io), R9 IO, LVDS61p (DM1B) (io), R10 IO, LVDS59p (io), R11 IO, LVDS57p (io), R12 IO, LVDS55n (DQ1B2) (io), R13 IO, LVDS54n (DQ1B0) (io), R14 IO, LVDS53p (io), R15 IO, LVDS52n (io), T2 IO, LVDS71n (io), T4 IO, LVDS69n (io), T6 IO, LVDS65p (io), T8 IO, LVDS63n (io), T9 IO, LVDS61n (io), T11 IO, LVDS59n (io), T13 IO, LVDS54p (DQ1B1) (io), T15 IO, LVDS52p (io)
part E pins: H2 DATA0 (in), H3 nCONFIG (in), H4 nCEO (out), H14 TDI (in), H15 TDO (out), J2 MSEL1 (in), J3 MSEL0 (in), J4 nCE (in), J13 nSTATUS (io), J14 TCK (in), J15 TMS (in), K4 DCLK (io), K13 CONF_DONE (io)
part F pins: A3 VCCIO2 (power), A7 VCCINT (power), A10 VCCINT (power), A14 VCCIO2 (power), C1 VCCIO1 (power), C16 VCCIO3 (power), F7 VCCIO2 (power), F10 VCCIO2 (power), G6 VCCIO1 (power), G8 VCCINT (power), G10 VCCINT (power), H7 VCCINT (power), H9 VCCINT (power), J8 VCCINT (power), J10 VCCINT (power), K7 VCCINT (power), K9 VCCINT (power), K11 VCCIO3 (power), L7 VCCIO4 (power), L10 VCCIO4 (power), P1 VCCIO1 (power), P16 VCCIO3 (power), T3 VCCIO4 (power), T7 VCCINT (power), T10 VCCINT (power), T14 VCCIO4 (power)
part G pins: A1 GND (power), A5 GND (power), A12 GND (power), A16 GND (power), F6 GND (power), F8 GND (power), F9 GND (power), F11 GND (power), G7 GND (power), G9 GND (power), G11 GND (power), H8 GND (power), H10 GND (power), J7 GND (power), J9 GND (power), K6 GND (power), K8 GND (power), K10 GND (power), L6 GND (power), L8 GND (power), L9 GND (power), L11 GND (power), T1 GND (power), T5 GND (power), T12 GND (power), T16 GND (power)
part H pins: H6 VCCA_PLL1 (power), H11 VCCA_PLL2 (power), J5 GNDG_PLL1 (power), J6 GNDA_PLL1 (power), J11 GNDA_PLL2 (power), J12 GNDG_PLL2 (power)
part I pins: G1 CLK0, LVDSCLK1p (in), G16 CLK2, LVDSCLK2p (in), H1 CLK1, LVDSCLK1n (in), H16 CLK3, LVDSCLK2n (in)
part A text: BANK 1
part B text: BANK 2
part C text: BANK 3
part D text: BANK 4

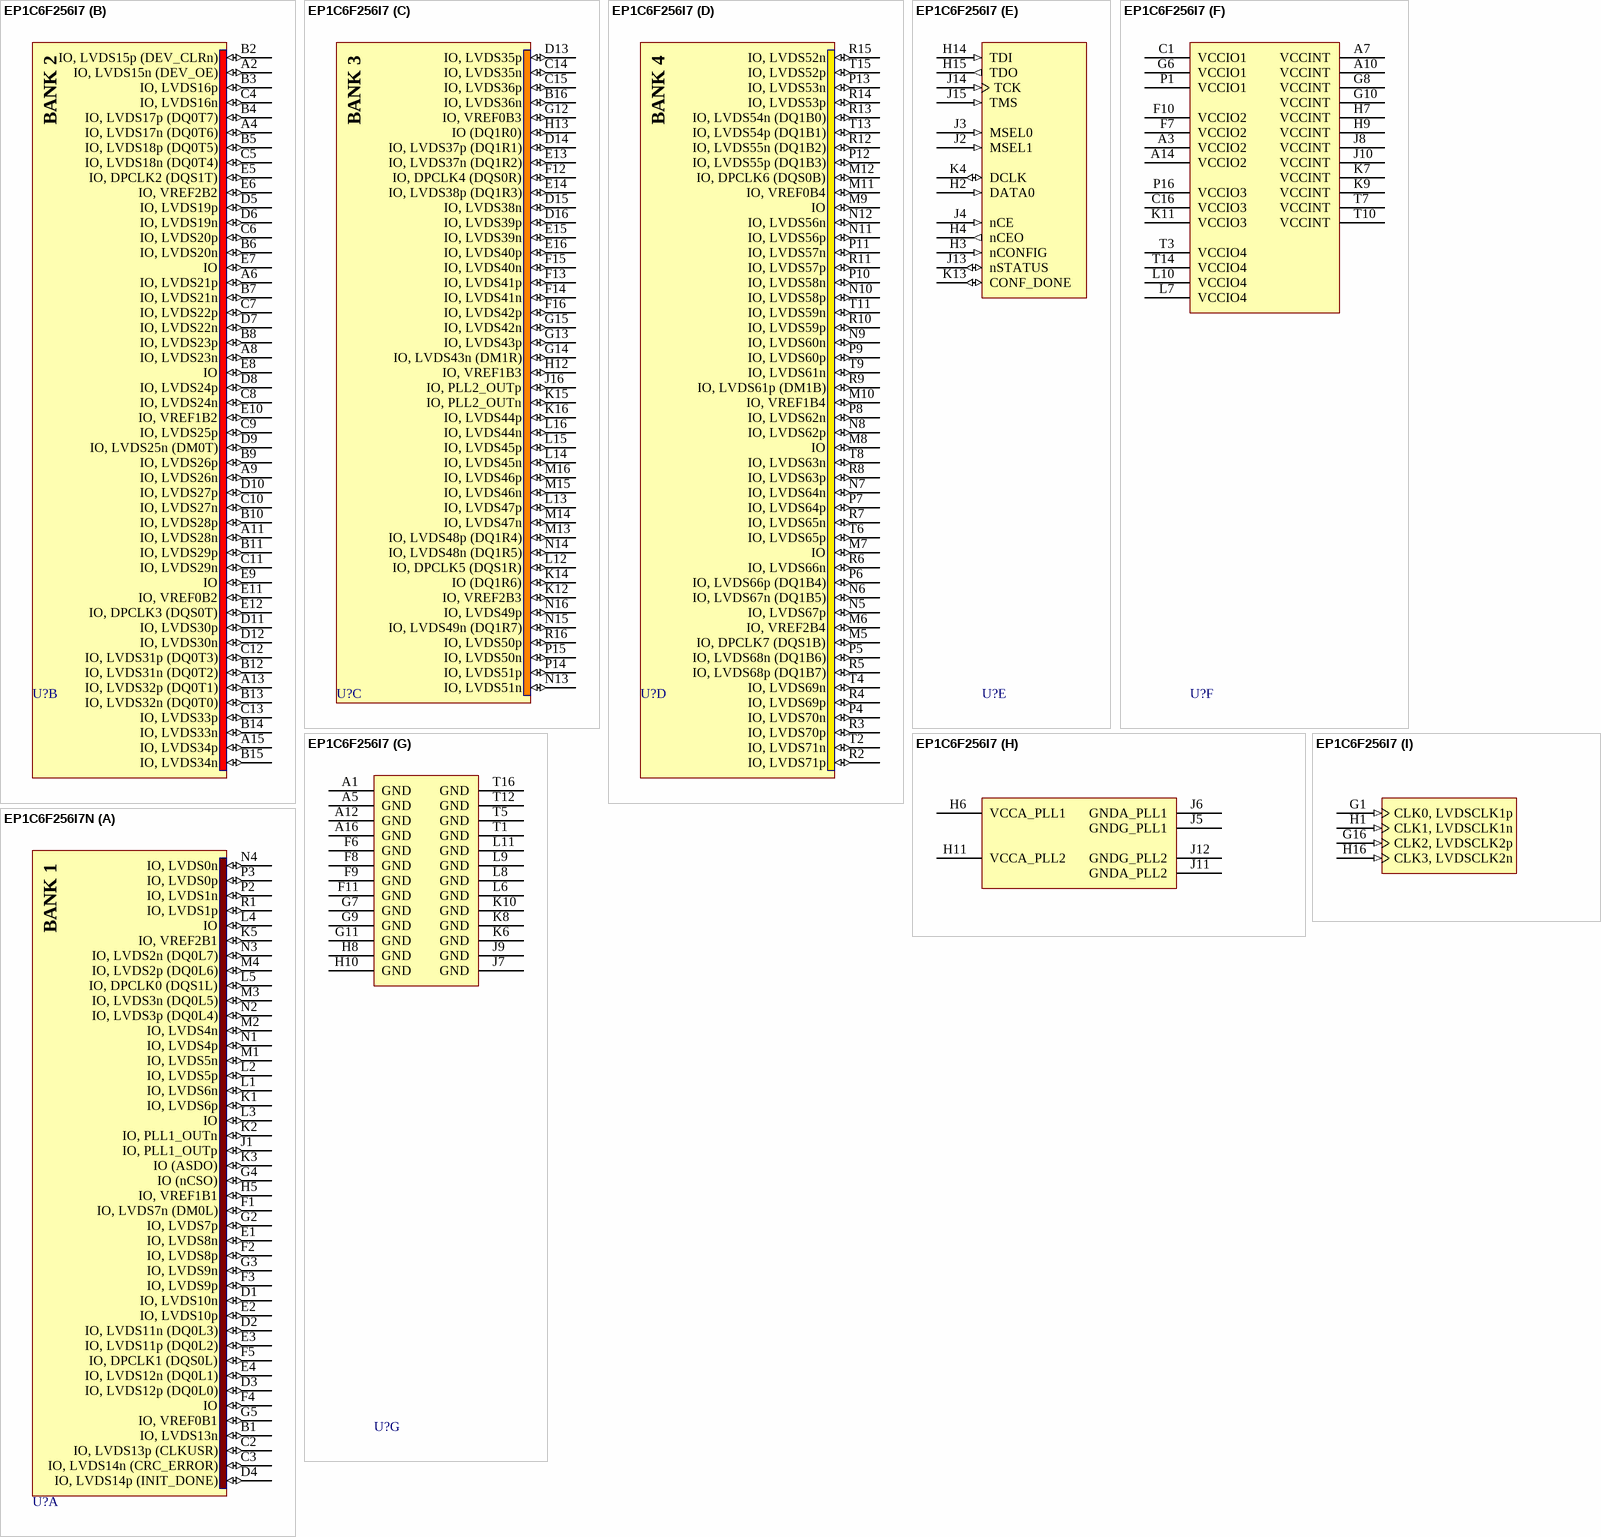
[diagram p56: symbols EP1C6F256I7 to EP1C6F256I7N]

## EP1C6F256I7
designator U?
Cyclone Family, 1.5V FPGA, 185 I/O Pins, 2 x PLLs, Industrial Grade, Speed Grade 7; DatasheetVersion: ver2.4, May-2008; PackageVersion: ver16.0, Dec-2009; PackageReference: FBGA256; PackageDescription: 256-Ball FineLine Ball Grid Array (FBGA256) - Option 1 - Wire Bond; Code_JEDEC: MS-034-AAF-1; Code_IPC: BGA100P16X16-256; ComponentLink1Description: Manufacturer URL; ComponentLink1URL: http://www.altera.com/; ComponentLink2Description: Handbook; ComponentLink2URL: http://www.altera.com/literature/hb/cyc/cyc_c5v1.pdf; ComponentLink3Description: Package Specification; ComponentLink3URL: http://www.altera.com/literature/ds/dspkg.pdf
footprint FBGA256 (BGA, 256-Leads, Body 17x17mm, Pitch 1mm)
part A pins: B1 IO, LVDS13n (io), C2 IO, LVDS13p (CLKUSR) (io), C3 IO, LVDS14n (CRC_ERROR) (io), D1 IO, LVDS10n (io), D2 IO, LVDS11n (DQ0L3) (io), D3 IO, LVDS12p (DQ0L0) (io), D4 IO, LVDS14p (INIT_DONE) (io), E1 IO, LVDS8n (io), E2 IO, LVDS10p (io), E3 IO, LVDS11p (DQ0L2) (io), E4 IO, LVDS12n (DQ0L1) (io), F1 IO, LVDS7n (DM0L) (io), F2 IO, LVDS8p (io), F3 IO, LVDS9p (io), F4 IO (io), F5 IO, DPCLK1 (DQS0L) (io), G2 IO, LVDS7p (io), G3 IO, LVDS9n (io), G4 IO (nCSO) (io), G5 IO, VREF0B1 (io), H5 IO, VREF1B1 (io), J1 IO, PLL1_OUTp (io), K1 IO, LVDS6p (io), K2 IO, PLL1_OUTn (io), K3 IO (ASDO) (io), K5 IO, VREF2B1 (io), L1 IO, LVDS6n (io), L2 IO, LVDS5p (io), L3 IO (io), L4 IO (io), L5 IO, DPCLK0 (DQS1L) (io), M1 IO, LVDS5n (io), M2 IO, LVDS4n (io), M3 IO, LVDS3n (DQ0L5) (io), M4 IO, LVDS2p (DQ0L6) (io), N1 IO, LVDS4p (io), N2 IO, LVDS3p (DQ0L4) (io), N3 IO, LVDS2n (DQ0L7) (io), N4 IO, LVDS0n (io), P2 IO, LVDS1n (io), P3 IO, LVDS0p (io), R1 IO, LVDS1p (io)
part B pins: A2 IO, LVDS15n (DEV_OE) (io), A4 IO, LVDS17n (DQ0T6) (io), A6 IO, LVDS21p (io), A8 IO, LVDS23n (io), A9 IO, LVDS26n (io), A11 IO, LVDS28n (io), A13 IO, LVDS32p (DQ0T1) (io), A15 IO, LVDS34p (io), B2 IO, LVDS15p (DEV_CLRn) (io), B3 IO, LVDS16p (io), B4 IO, LVDS17p (DQ0T7) (io), B5 IO, LVDS18p (DQ0T5) (io), B6 IO, LVDS20n (io), B7 IO, LVDS21n (io), B8 IO, LVDS23p (io), B9 IO, LVDS26p (io), B10 IO, LVDS28p (io), B11 IO, LVDS29p (io), B12 IO, LVDS31n (DQ0T2) (io), B13 IO, LVDS32n (DQ0T0) (io), B14 IO, LVDS33n (io), B15 IO, LVDS34n (io), C4 IO, LVDS16n (io), C5 IO, LVDS18n (DQ0T4) (io), C6 IO, LVDS20p (io), C7 IO, LVDS22p (io), C8 IO, LVDS24n (io), C9 IO, LVDS25p (io), C10 IO, LVDS27n (io), C11 IO, LVDS29n (io), C12 IO, LVDS31p (DQ0T3) (io), C13 IO, LVDS33p (io), D5 IO, LVDS19p (io), D6 IO, LVDS19n (io), D7 IO, LVDS22n (io), D8 IO, LVDS24p (io), D9 IO, LVDS25n (DM0T) (io), D10 IO, LVDS27p (io), D11 IO, LVDS30p (io), D12 IO, LVDS30n (io), E5 IO, DPCLK2 (DQS1T) (io), E6 IO, VREF2B2 (io), E7 IO (io), E8 IO (io), E9 IO (io), E10 IO, VREF1B2 (io), E11 IO, VREF0B2 (io), E12 IO, DPCLK3 (DQS0T) (io)
part C pins: B16 IO, LVDS36n (io), C14 IO, LVDS35n (io), C15 IO, LVDS36p (io), D13 IO, LVDS35p (io), D14 IO, LVDS37p (DQ1R1) (io), D15 IO, LVDS38n (io), D16 IO, LVDS39p (io), E13 IO, LVDS37n (DQ1R2) (io), E14 IO, LVDS38p (DQ1R3) (io), E15 IO, LVDS39n (io), E16 IO, LVDS40p (io), F12 IO, DPCLK4 (DQS0R) (io), F13 IO, LVDS41p (io), F14 IO, LVDS41n (io), F15 IO, LVDS40n (io), F16 IO, LVDS42p (io), G12 IO, VREF0B3 (io), G13 IO, LVDS43p (io), G14 IO, LVDS43n (DM1R) (io), G15 IO, LVDS42n (io), H12 IO, VREF1B3 (io), H13 IO (DQ1R0) (io), J16 IO, PLL2_OUTp (io), K12 IO, VREF2B3 (io), K14 IO (DQ1R6) (io), K15 IO, PLL2_OUTn (io), K16 IO, LVDS44p (io), L12 IO, DPCLK5 (DQS1R) (io), L13 IO, LVDS47p (io), L14 IO, LVDS45n (io), L15 IO, LVDS45p (io), L16 IO, LVDS44n (io), M13 IO, LVDS48p (DQ1R4) (io), M14 IO, LVDS47n (io), M15 IO, LVDS46n (io), M16 IO, LVDS46p (io), N13 IO, LVDS51n (io), N14 IO, LVDS48n (DQ1R5) (io), N15 IO, LVDS49n (DQ1R7) (io), N16 IO, LVDS49p (io), P14 IO, LVDS51p (io), P15 IO, LVDS50n (io), R16 IO, LVDS50p (io)
part D pins: M5 IO, DPCLK7 (DQS1B) (io), M6 IO, VREF2B4 (io), M7 IO (io), M8 IO (io), M9 IO (io), M10 IO, VREF1B4 (io), M11 IO, VREF0B4 (io), M12 IO, DPCLK6 (DQS0B) (io), N5 IO, LVDS67p (io), N6 IO, LVDS67n (DQ1B5) (io), N7 IO, LVDS64n (io), N8 IO, LVDS62p (io), N9 IO, LVDS60n (io), N10 IO, LVDS58p (io), N11 IO, LVDS56p (io), N12 IO, LVDS56n (io), P4 IO, LVDS70n (io), P5 IO, LVDS68n (DQ1B6) (io), P6 IO, LVDS66p (DQ1B4) (io), P7 IO, LVDS64p (io), P8 IO, LVDS62n (io), P9 IO, LVDS60p (io), P10 IO, LVDS58n (io), P11 IO, LVDS57n (io), P12 IO, LVDS55p (DQ1B3) (io), P13 IO, LVDS53n (io), R2 IO, LVDS71p (io), R3 IO, LVDS70p (io), R4 IO, LVDS69p (io), R5 IO, LVDS68p (DQ1B7) (io), R6 IO, LVDS66n (io), R7 IO, LVDS65n (io), R8 IO, LVDS63p (io), R9 IO, LVDS61p (DM1B) (io), R10 IO, LVDS59p (io), R11 IO, LVDS57p (io), R12 IO, LVDS55n (DQ1B2) (io), R13 IO, LVDS54n (DQ1B0) (io), R14 IO, LVDS53p (io), R15 IO, LVDS52n (io), T2 IO, LVDS71n (io), T4 IO, LVDS69n (io), T6 IO, LVDS65p (io), T8 IO, LVDS63n (io), T9 IO, LVDS61n (io), T11 IO, LVDS59n (io), T13 IO, LVDS54p (DQ1B1) (io), T15 IO, LVDS52p (io)
part E pins: H2 DATA0 (in), H3 nCONFIG (in), H4 nCEO (out), H14 TDI (in), H15 TDO (out), J2 MSEL1 (in), J3 MSEL0 (in), J4 nCE (in), J13 nSTATUS (io), J14 TCK (in), J15 TMS (in), K4 DCLK (io), K13 CONF_DONE (io)
part F pins: A3 VCCIO2 (power), A7 VCCINT (power), A10 VCCINT (power), A14 VCCIO2 (power), C1 VCCIO1 (power), C16 VCCIO3 (power), F7 VCCIO2 (power), F10 VCCIO2 (power), G6 VCCIO1 (power), G8 VCCINT (power), G10 VCCINT (power), H7 VCCINT (power), H9 VCCINT (power), J8 VCCINT (power), J10 VCCINT (power), K7 VCCINT (power), K9 VCCINT (power), K11 VCCIO3 (power), L7 VCCIO4 (power), L10 VCCIO4 (power), P1 VCCIO1 (power), P16 VCCIO3 (power), T3 VCCIO4 (power), T7 VCCINT (power), T10 VCCINT (power), T14 VCCIO4 (power)
part G pins: A1 GND (power), A5 GND (power), A12 GND (power), A16 GND (power), F6 GND (power), F8 GND (power), F9 GND (power), F11 GND (power), G7 GND (power), G9 GND (power), G11 GND (power), H8 GND (power), H10 GND (power), J7 GND (power), J9 GND (power), K6 GND (power), K8 GND (power), K10 GND (power), L6 GND (power), L8 GND (power), L9 GND (power), L11 GND (power), T1 GND (power), T5 GND (power), T12 GND (power), T16 GND (power)
part H pins: H6 VCCA_PLL1 (power), H11 VCCA_PLL2 (power), J5 GNDG_PLL1 (power), J6 GNDA_PLL1 (power), J11 GNDA_PLL2 (power), J12 GNDG_PLL2 (power)
part I pins: G1 CLK0, LVDSCLK1p (in), G16 CLK2, LVDSCLK2p (in), H1 CLK1, LVDSCLK1n (in), H16 CLK3, LVDSCLK2n (in)
part A text: BANK 1
part B text: BANK 2
part C text: BANK 3
part D text: BANK 4

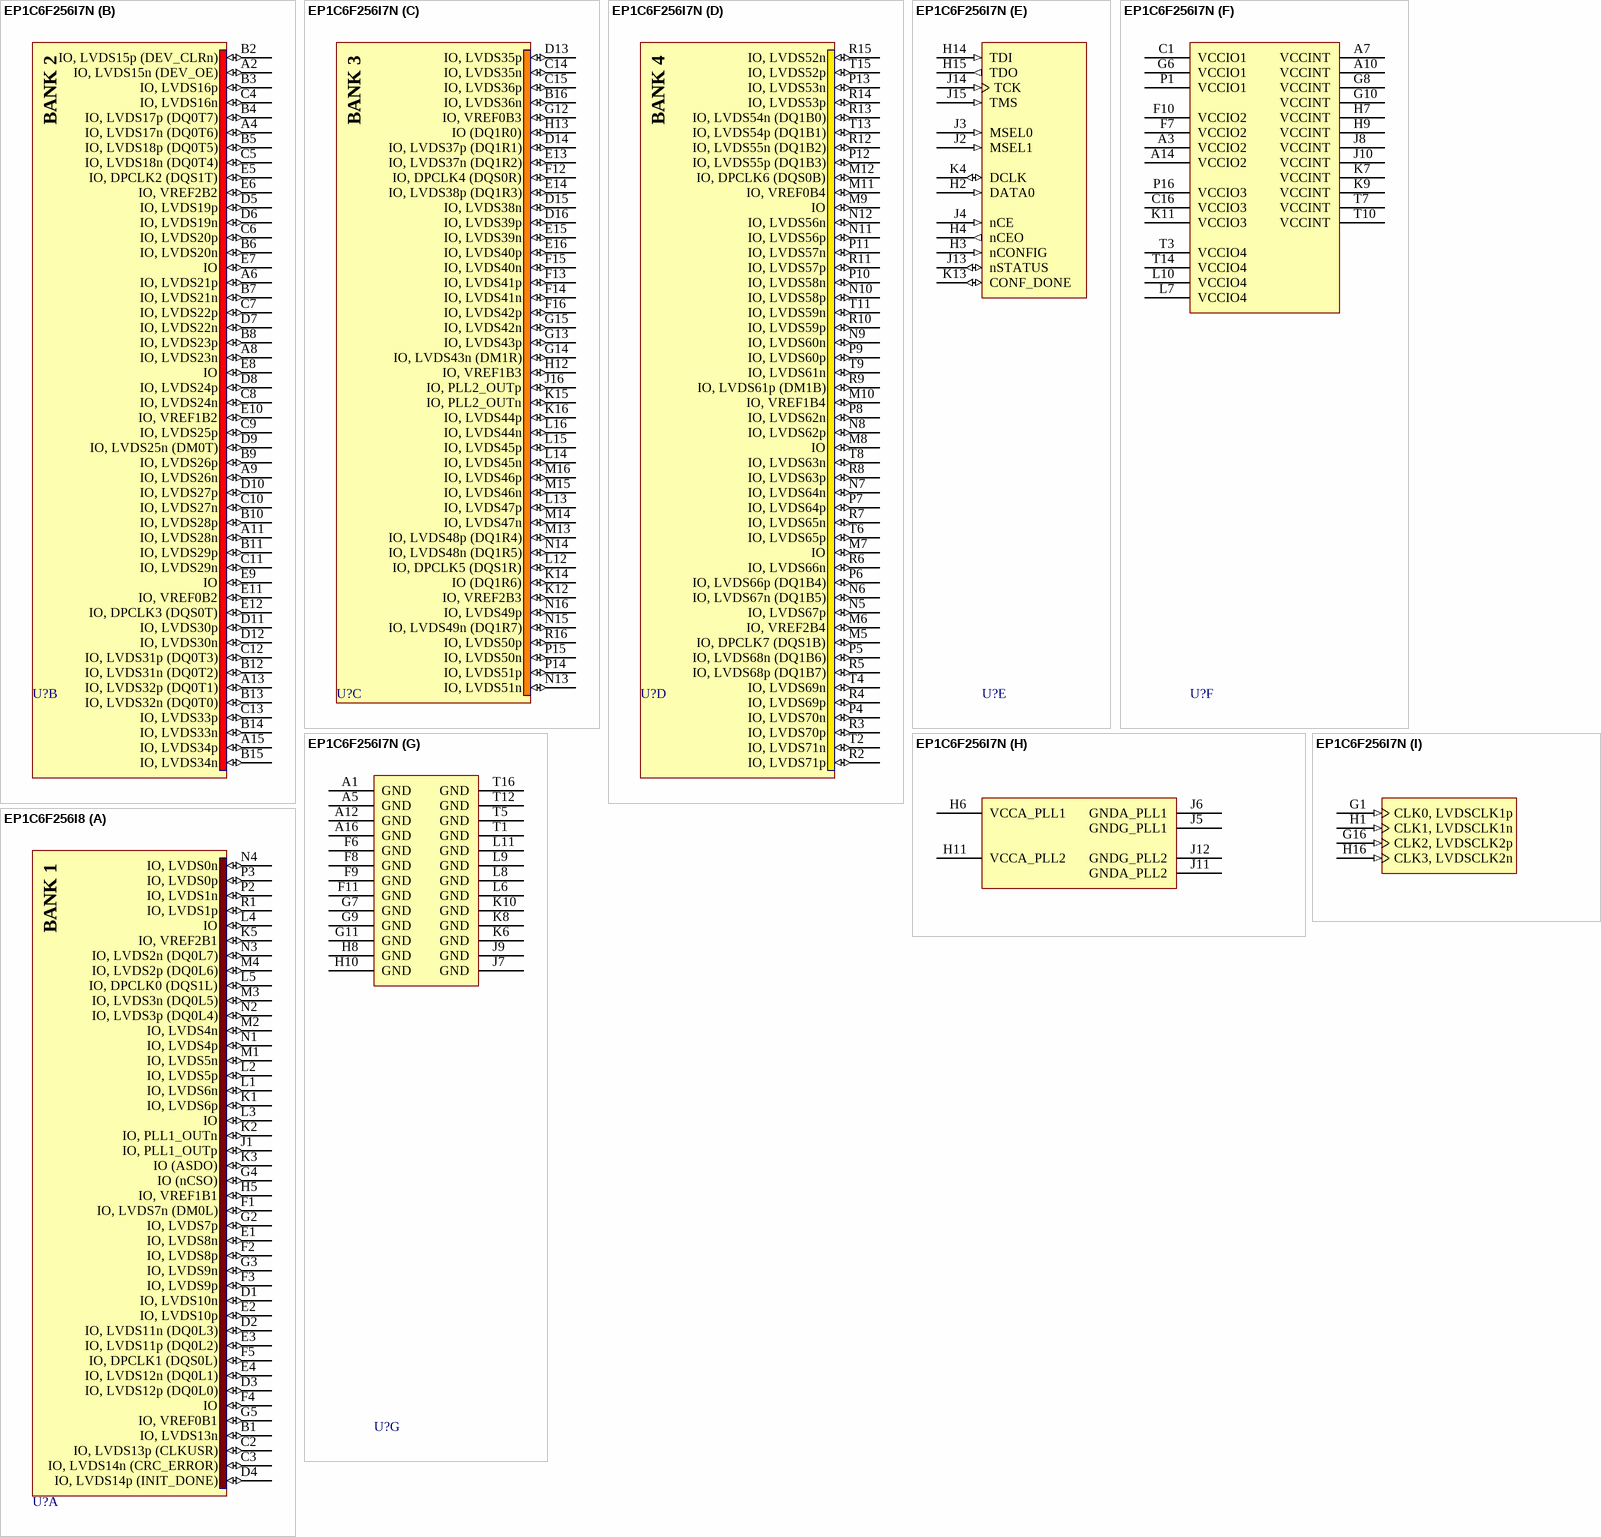
[diagram p57: symbols EP1C6F256I7N to EP1C6F256I8]

## EP1C6F256I7N
designator U?
Cyclone Family, 1.5V FPGA, 185 I/O Pins, 2 x PLLs, Industrial Grade, Speed Grade 7, Pb-Free; DatasheetVersion: ver2.4, May-2008; PackageVersion: ver16.0, Dec-2009; PackageReference: FBGA256; PackageDescription: 256-Ball FineLine Ball Grid Array (FBGA256) - Option 1 - Wire Bond; Code_JEDEC: MS-034-AAF-1; Code_IPC: BGA100P16X16-256; ComponentLink1Description: Manufacturer URL; ComponentLink1URL: http://www.altera.com/; ComponentLink2Description: Handbook; ComponentLink2URL: http://www.altera.com/literature/hb/cyc/cyc_c5v1.pdf; ComponentLink3Description: Package Specification; ComponentLink3URL: http://www.altera.com/literature/ds/dspkg.pdf
footprint FBGA256 (BGA, 256-Leads, Body 17x17mm, Pitch 1mm)
part A pins: B1 IO, LVDS13n (io), C2 IO, LVDS13p (CLKUSR) (io), C3 IO, LVDS14n (CRC_ERROR) (io), D1 IO, LVDS10n (io), D2 IO, LVDS11n (DQ0L3) (io), D3 IO, LVDS12p (DQ0L0) (io), D4 IO, LVDS14p (INIT_DONE) (io), E1 IO, LVDS8n (io), E2 IO, LVDS10p (io), E3 IO, LVDS11p (DQ0L2) (io), E4 IO, LVDS12n (DQ0L1) (io), F1 IO, LVDS7n (DM0L) (io), F2 IO, LVDS8p (io), F3 IO, LVDS9p (io), F4 IO (io), F5 IO, DPCLK1 (DQS0L) (io), G2 IO, LVDS7p (io), G3 IO, LVDS9n (io), G4 IO (nCSO) (io), G5 IO, VREF0B1 (io), H5 IO, VREF1B1 (io), J1 IO, PLL1_OUTp (io), K1 IO, LVDS6p (io), K2 IO, PLL1_OUTn (io), K3 IO (ASDO) (io), K5 IO, VREF2B1 (io), L1 IO, LVDS6n (io), L2 IO, LVDS5p (io), L3 IO (io), L4 IO (io), L5 IO, DPCLK0 (DQS1L) (io), M1 IO, LVDS5n (io), M2 IO, LVDS4n (io), M3 IO, LVDS3n (DQ0L5) (io), M4 IO, LVDS2p (DQ0L6) (io), N1 IO, LVDS4p (io), N2 IO, LVDS3p (DQ0L4) (io), N3 IO, LVDS2n (DQ0L7) (io), N4 IO, LVDS0n (io), P2 IO, LVDS1n (io), P3 IO, LVDS0p (io), R1 IO, LVDS1p (io)
part B pins: A2 IO, LVDS15n (DEV_OE) (io), A4 IO, LVDS17n (DQ0T6) (io), A6 IO, LVDS21p (io), A8 IO, LVDS23n (io), A9 IO, LVDS26n (io), A11 IO, LVDS28n (io), A13 IO, LVDS32p (DQ0T1) (io), A15 IO, LVDS34p (io), B2 IO, LVDS15p (DEV_CLRn) (io), B3 IO, LVDS16p (io), B4 IO, LVDS17p (DQ0T7) (io), B5 IO, LVDS18p (DQ0T5) (io), B6 IO, LVDS20n (io), B7 IO, LVDS21n (io), B8 IO, LVDS23p (io), B9 IO, LVDS26p (io), B10 IO, LVDS28p (io), B11 IO, LVDS29p (io), B12 IO, LVDS31n (DQ0T2) (io), B13 IO, LVDS32n (DQ0T0) (io), B14 IO, LVDS33n (io), B15 IO, LVDS34n (io), C4 IO, LVDS16n (io), C5 IO, LVDS18n (DQ0T4) (io), C6 IO, LVDS20p (io), C7 IO, LVDS22p (io), C8 IO, LVDS24n (io), C9 IO, LVDS25p (io), C10 IO, LVDS27n (io), C11 IO, LVDS29n (io), C12 IO, LVDS31p (DQ0T3) (io), C13 IO, LVDS33p (io), D5 IO, LVDS19p (io), D6 IO, LVDS19n (io), D7 IO, LVDS22n (io), D8 IO, LVDS24p (io), D9 IO, LVDS25n (DM0T) (io), D10 IO, LVDS27p (io), D11 IO, LVDS30p (io), D12 IO, LVDS30n (io), E5 IO, DPCLK2 (DQS1T) (io), E6 IO, VREF2B2 (io), E7 IO (io), E8 IO (io), E9 IO (io), E10 IO, VREF1B2 (io), E11 IO, VREF0B2 (io), E12 IO, DPCLK3 (DQS0T) (io)
part C pins: B16 IO, LVDS36n (io), C14 IO, LVDS35n (io), C15 IO, LVDS36p (io), D13 IO, LVDS35p (io), D14 IO, LVDS37p (DQ1R1) (io), D15 IO, LVDS38n (io), D16 IO, LVDS39p (io), E13 IO, LVDS37n (DQ1R2) (io), E14 IO, LVDS38p (DQ1R3) (io), E15 IO, LVDS39n (io), E16 IO, LVDS40p (io), F12 IO, DPCLK4 (DQS0R) (io), F13 IO, LVDS41p (io), F14 IO, LVDS41n (io), F15 IO, LVDS40n (io), F16 IO, LVDS42p (io), G12 IO, VREF0B3 (io), G13 IO, LVDS43p (io), G14 IO, LVDS43n (DM1R) (io), G15 IO, LVDS42n (io), H12 IO, VREF1B3 (io), H13 IO (DQ1R0) (io), J16 IO, PLL2_OUTp (io), K12 IO, VREF2B3 (io), K14 IO (DQ1R6) (io), K15 IO, PLL2_OUTn (io), K16 IO, LVDS44p (io), L12 IO, DPCLK5 (DQS1R) (io), L13 IO, LVDS47p (io), L14 IO, LVDS45n (io), L15 IO, LVDS45p (io), L16 IO, LVDS44n (io), M13 IO, LVDS48p (DQ1R4) (io), M14 IO, LVDS47n (io), M15 IO, LVDS46n (io), M16 IO, LVDS46p (io), N13 IO, LVDS51n (io), N14 IO, LVDS48n (DQ1R5) (io), N15 IO, LVDS49n (DQ1R7) (io), N16 IO, LVDS49p (io), P14 IO, LVDS51p (io), P15 IO, LVDS50n (io), R16 IO, LVDS50p (io)
part D pins: M5 IO, DPCLK7 (DQS1B) (io), M6 IO, VREF2B4 (io), M7 IO (io), M8 IO (io), M9 IO (io), M10 IO, VREF1B4 (io), M11 IO, VREF0B4 (io), M12 IO, DPCLK6 (DQS0B) (io), N5 IO, LVDS67p (io), N6 IO, LVDS67n (DQ1B5) (io), N7 IO, LVDS64n (io), N8 IO, LVDS62p (io), N9 IO, LVDS60n (io), N10 IO, LVDS58p (io), N11 IO, LVDS56p (io), N12 IO, LVDS56n (io), P4 IO, LVDS70n (io), P5 IO, LVDS68n (DQ1B6) (io), P6 IO, LVDS66p (DQ1B4) (io), P7 IO, LVDS64p (io), P8 IO, LVDS62n (io), P9 IO, LVDS60p (io), P10 IO, LVDS58n (io), P11 IO, LVDS57n (io), P12 IO, LVDS55p (DQ1B3) (io), P13 IO, LVDS53n (io), R2 IO, LVDS71p (io), R3 IO, LVDS70p (io), R4 IO, LVDS69p (io), R5 IO, LVDS68p (DQ1B7) (io), R6 IO, LVDS66n (io), R7 IO, LVDS65n (io), R8 IO, LVDS63p (io), R9 IO, LVDS61p (DM1B) (io), R10 IO, LVDS59p (io), R11 IO, LVDS57p (io), R12 IO, LVDS55n (DQ1B2) (io), R13 IO, LVDS54n (DQ1B0) (io), R14 IO, LVDS53p (io), R15 IO, LVDS52n (io), T2 IO, LVDS71n (io), T4 IO, LVDS69n (io), T6 IO, LVDS65p (io), T8 IO, LVDS63n (io), T9 IO, LVDS61n (io), T11 IO, LVDS59n (io), T13 IO, LVDS54p (DQ1B1) (io), T15 IO, LVDS52p (io)
part E pins: H2 DATA0 (in), H3 nCONFIG (in), H4 nCEO (out), H14 TDI (in), H15 TDO (out), J2 MSEL1 (in), J3 MSEL0 (in), J4 nCE (in), J13 nSTATUS (io), J14 TCK (in), J15 TMS (in), K4 DCLK (io), K13 CONF_DONE (io)
part F pins: A3 VCCIO2 (power), A7 VCCINT (power), A10 VCCINT (power), A14 VCCIO2 (power), C1 VCCIO1 (power), C16 VCCIO3 (power), F7 VCCIO2 (power), F10 VCCIO2 (power), G6 VCCIO1 (power), G8 VCCINT (power), G10 VCCINT (power), H7 VCCINT (power), H9 VCCINT (power), J8 VCCINT (power), J10 VCCINT (power), K7 VCCINT (power), K9 VCCINT (power), K11 VCCIO3 (power), L7 VCCIO4 (power), L10 VCCIO4 (power), P1 VCCIO1 (power), P16 VCCIO3 (power), T3 VCCIO4 (power), T7 VCCINT (power), T10 VCCINT (power), T14 VCCIO4 (power)
part G pins: A1 GND (power), A5 GND (power), A12 GND (power), A16 GND (power), F6 GND (power), F8 GND (power), F9 GND (power), F11 GND (power), G7 GND (power), G9 GND (power), G11 GND (power), H8 GND (power), H10 GND (power), J7 GND (power), J9 GND (power), K6 GND (power), K8 GND (power), K10 GND (power), L6 GND (power), L8 GND (power), L9 GND (power), L11 GND (power), T1 GND (power), T5 GND (power), T12 GND (power), T16 GND (power)
part H pins: H6 VCCA_PLL1 (power), H11 VCCA_PLL2 (power), J5 GNDG_PLL1 (power), J6 GNDA_PLL1 (power), J11 GNDA_PLL2 (power), J12 GNDG_PLL2 (power)
part I pins: G1 CLK0, LVDSCLK1p (in), G16 CLK2, LVDSCLK2p (in), H1 CLK1, LVDSCLK1n (in), H16 CLK3, LVDSCLK2n (in)
part A text: BANK 1
part B text: BANK 2
part C text: BANK 3
part D text: BANK 4

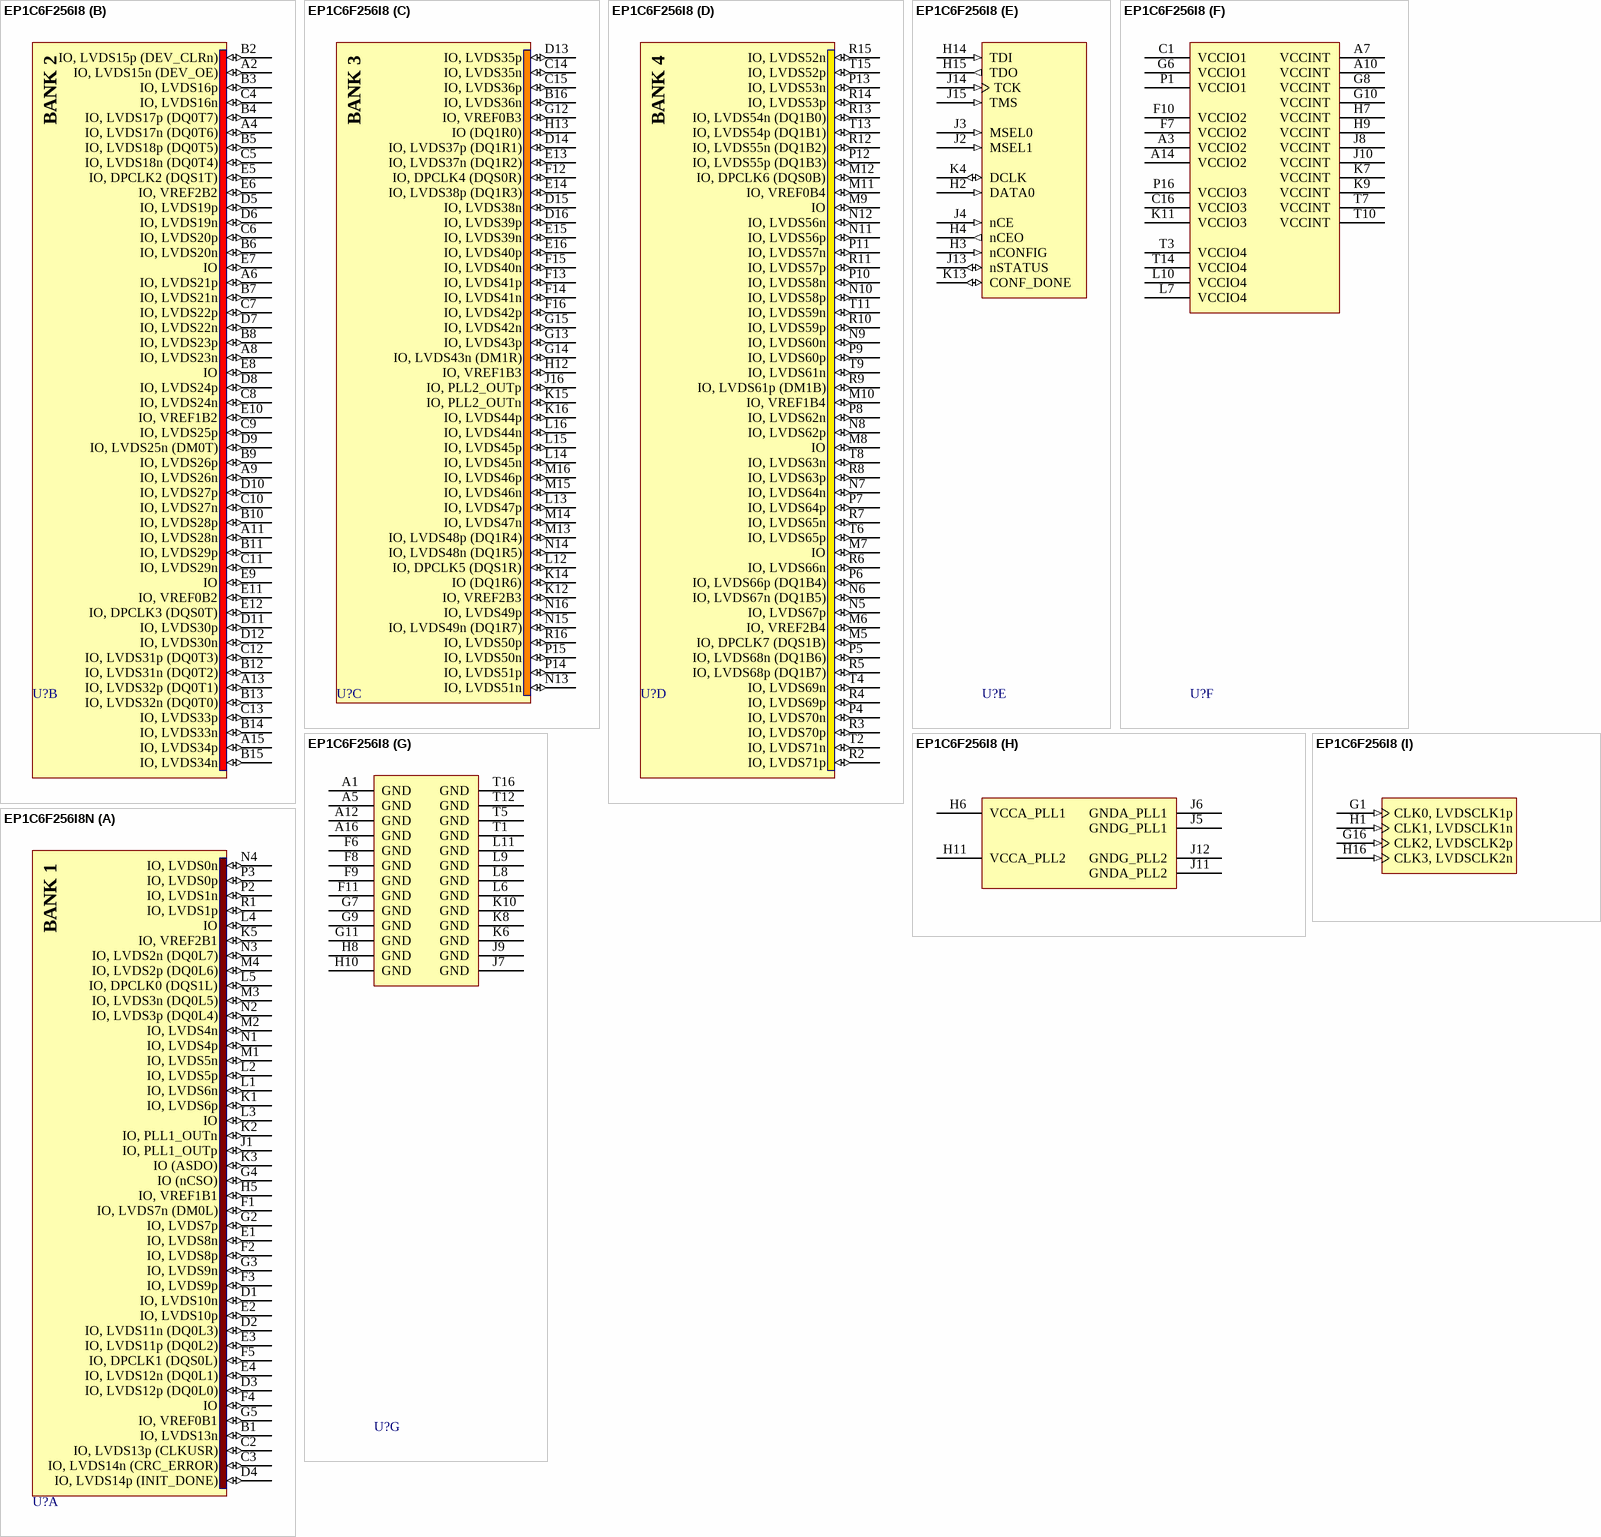
[diagram p58: symbols EP1C6F256I8 to EP1C6F256I8N]

## EP1C6F256I8
designator U?
Cyclone Family, 1.5V FPGA, 185 I/O Pins, 2 x PLLs, Industrial Grade, Speed Grade 8; DatasheetVersion: ver2.4, May-2008; PackageVersion: ver16.0, Dec-2009; PackageReference: FBGA256; PackageDescription: 256-Ball FineLine Ball Grid Array (FBGA256) - Option 1 - Wire Bond; Code_JEDEC: MS-034-AAF-1; Code_IPC: BGA100P16X16-256; ComponentLink1Description: Manufacturer URL; ComponentLink1URL: http://www.altera.com/; ComponentLink2Description: Handbook; ComponentLink2URL: http://www.altera.com/literature/hb/cyc/cyc_c5v1.pdf; ComponentLink3Description: Package Specification; ComponentLink3URL: http://www.altera.com/literature/ds/dspkg.pdf
footprint FBGA256 (BGA, 256-Leads, Body 17x17mm, Pitch 1mm)
part A pins: B1 IO, LVDS13n (io), C2 IO, LVDS13p (CLKUSR) (io), C3 IO, LVDS14n (CRC_ERROR) (io), D1 IO, LVDS10n (io), D2 IO, LVDS11n (DQ0L3) (io), D3 IO, LVDS12p (DQ0L0) (io), D4 IO, LVDS14p (INIT_DONE) (io), E1 IO, LVDS8n (io), E2 IO, LVDS10p (io), E3 IO, LVDS11p (DQ0L2) (io), E4 IO, LVDS12n (DQ0L1) (io), F1 IO, LVDS7n (DM0L) (io), F2 IO, LVDS8p (io), F3 IO, LVDS9p (io), F4 IO (io), F5 IO, DPCLK1 (DQS0L) (io), G2 IO, LVDS7p (io), G3 IO, LVDS9n (io), G4 IO (nCSO) (io), G5 IO, VREF0B1 (io), H5 IO, VREF1B1 (io), J1 IO, PLL1_OUTp (io), K1 IO, LVDS6p (io), K2 IO, PLL1_OUTn (io), K3 IO (ASDO) (io), K5 IO, VREF2B1 (io), L1 IO, LVDS6n (io), L2 IO, LVDS5p (io), L3 IO (io), L4 IO (io), L5 IO, DPCLK0 (DQS1L) (io), M1 IO, LVDS5n (io), M2 IO, LVDS4n (io), M3 IO, LVDS3n (DQ0L5) (io), M4 IO, LVDS2p (DQ0L6) (io), N1 IO, LVDS4p (io), N2 IO, LVDS3p (DQ0L4) (io), N3 IO, LVDS2n (DQ0L7) (io), N4 IO, LVDS0n (io), P2 IO, LVDS1n (io), P3 IO, LVDS0p (io), R1 IO, LVDS1p (io)
part B pins: A2 IO, LVDS15n (DEV_OE) (io), A4 IO, LVDS17n (DQ0T6) (io), A6 IO, LVDS21p (io), A8 IO, LVDS23n (io), A9 IO, LVDS26n (io), A11 IO, LVDS28n (io), A13 IO, LVDS32p (DQ0T1) (io), A15 IO, LVDS34p (io), B2 IO, LVDS15p (DEV_CLRn) (io), B3 IO, LVDS16p (io), B4 IO, LVDS17p (DQ0T7) (io), B5 IO, LVDS18p (DQ0T5) (io), B6 IO, LVDS20n (io), B7 IO, LVDS21n (io), B8 IO, LVDS23p (io), B9 IO, LVDS26p (io), B10 IO, LVDS28p (io), B11 IO, LVDS29p (io), B12 IO, LVDS31n (DQ0T2) (io), B13 IO, LVDS32n (DQ0T0) (io), B14 IO, LVDS33n (io), B15 IO, LVDS34n (io), C4 IO, LVDS16n (io), C5 IO, LVDS18n (DQ0T4) (io), C6 IO, LVDS20p (io), C7 IO, LVDS22p (io), C8 IO, LVDS24n (io), C9 IO, LVDS25p (io), C10 IO, LVDS27n (io), C11 IO, LVDS29n (io), C12 IO, LVDS31p (DQ0T3) (io), C13 IO, LVDS33p (io), D5 IO, LVDS19p (io), D6 IO, LVDS19n (io), D7 IO, LVDS22n (io), D8 IO, LVDS24p (io), D9 IO, LVDS25n (DM0T) (io), D10 IO, LVDS27p (io), D11 IO, LVDS30p (io), D12 IO, LVDS30n (io), E5 IO, DPCLK2 (DQS1T) (io), E6 IO, VREF2B2 (io), E7 IO (io), E8 IO (io), E9 IO (io), E10 IO, VREF1B2 (io), E11 IO, VREF0B2 (io), E12 IO, DPCLK3 (DQS0T) (io)
part C pins: B16 IO, LVDS36n (io), C14 IO, LVDS35n (io), C15 IO, LVDS36p (io), D13 IO, LVDS35p (io), D14 IO, LVDS37p (DQ1R1) (io), D15 IO, LVDS38n (io), D16 IO, LVDS39p (io), E13 IO, LVDS37n (DQ1R2) (io), E14 IO, LVDS38p (DQ1R3) (io), E15 IO, LVDS39n (io), E16 IO, LVDS40p (io), F12 IO, DPCLK4 (DQS0R) (io), F13 IO, LVDS41p (io), F14 IO, LVDS41n (io), F15 IO, LVDS40n (io), F16 IO, LVDS42p (io), G12 IO, VREF0B3 (io), G13 IO, LVDS43p (io), G14 IO, LVDS43n (DM1R) (io), G15 IO, LVDS42n (io), H12 IO, VREF1B3 (io), H13 IO (DQ1R0) (io), J16 IO, PLL2_OUTp (io), K12 IO, VREF2B3 (io), K14 IO (DQ1R6) (io), K15 IO, PLL2_OUTn (io), K16 IO, LVDS44p (io), L12 IO, DPCLK5 (DQS1R) (io), L13 IO, LVDS47p (io), L14 IO, LVDS45n (io), L15 IO, LVDS45p (io), L16 IO, LVDS44n (io), M13 IO, LVDS48p (DQ1R4) (io), M14 IO, LVDS47n (io), M15 IO, LVDS46n (io), M16 IO, LVDS46p (io), N13 IO, LVDS51n (io), N14 IO, LVDS48n (DQ1R5) (io), N15 IO, LVDS49n (DQ1R7) (io), N16 IO, LVDS49p (io), P14 IO, LVDS51p (io), P15 IO, LVDS50n (io), R16 IO, LVDS50p (io)
part D pins: M5 IO, DPCLK7 (DQS1B) (io), M6 IO, VREF2B4 (io), M7 IO (io), M8 IO (io), M9 IO (io), M10 IO, VREF1B4 (io), M11 IO, VREF0B4 (io), M12 IO, DPCLK6 (DQS0B) (io), N5 IO, LVDS67p (io), N6 IO, LVDS67n (DQ1B5) (io), N7 IO, LVDS64n (io), N8 IO, LVDS62p (io), N9 IO, LVDS60n (io), N10 IO, LVDS58p (io), N11 IO, LVDS56p (io), N12 IO, LVDS56n (io), P4 IO, LVDS70n (io), P5 IO, LVDS68n (DQ1B6) (io), P6 IO, LVDS66p (DQ1B4) (io), P7 IO, LVDS64p (io), P8 IO, LVDS62n (io), P9 IO, LVDS60p (io), P10 IO, LVDS58n (io), P11 IO, LVDS57n (io), P12 IO, LVDS55p (DQ1B3) (io), P13 IO, LVDS53n (io), R2 IO, LVDS71p (io), R3 IO, LVDS70p (io), R4 IO, LVDS69p (io), R5 IO, LVDS68p (DQ1B7) (io), R6 IO, LVDS66n (io), R7 IO, LVDS65n (io), R8 IO, LVDS63p (io), R9 IO, LVDS61p (DM1B) (io), R10 IO, LVDS59p (io), R11 IO, LVDS57p (io), R12 IO, LVDS55n (DQ1B2) (io), R13 IO, LVDS54n (DQ1B0) (io), R14 IO, LVDS53p (io), R15 IO, LVDS52n (io), T2 IO, LVDS71n (io), T4 IO, LVDS69n (io), T6 IO, LVDS65p (io), T8 IO, LVDS63n (io), T9 IO, LVDS61n (io), T11 IO, LVDS59n (io), T13 IO, LVDS54p (DQ1B1) (io), T15 IO, LVDS52p (io)
part E pins: H2 DATA0 (in), H3 nCONFIG (in), H4 nCEO (out), H14 TDI (in), H15 TDO (out), J2 MSEL1 (in), J3 MSEL0 (in), J4 nCE (in), J13 nSTATUS (io), J14 TCK (in), J15 TMS (in), K4 DCLK (io), K13 CONF_DONE (io)
part F pins: A3 VCCIO2 (power), A7 VCCINT (power), A10 VCCINT (power), A14 VCCIO2 (power), C1 VCCIO1 (power), C16 VCCIO3 (power), F7 VCCIO2 (power), F10 VCCIO2 (power), G6 VCCIO1 (power), G8 VCCINT (power), G10 VCCINT (power), H7 VCCINT (power), H9 VCCINT (power), J8 VCCINT (power), J10 VCCINT (power), K7 VCCINT (power), K9 VCCINT (power), K11 VCCIO3 (power), L7 VCCIO4 (power), L10 VCCIO4 (power), P1 VCCIO1 (power), P16 VCCIO3 (power), T3 VCCIO4 (power), T7 VCCINT (power), T10 VCCINT (power), T14 VCCIO4 (power)
part G pins: A1 GND (power), A5 GND (power), A12 GND (power), A16 GND (power), F6 GND (power), F8 GND (power), F9 GND (power), F11 GND (power), G7 GND (power), G9 GND (power), G11 GND (power), H8 GND (power), H10 GND (power), J7 GND (power), J9 GND (power), K6 GND (power), K8 GND (power), K10 GND (power), L6 GND (power), L8 GND (power), L9 GND (power), L11 GND (power), T1 GND (power), T5 GND (power), T12 GND (power), T16 GND (power)
part H pins: H6 VCCA_PLL1 (power), H11 VCCA_PLL2 (power), J5 GNDG_PLL1 (power), J6 GNDA_PLL1 (power), J11 GNDA_PLL2 (power), J12 GNDG_PLL2 (power)
part I pins: G1 CLK0, LVDSCLK1p (in), G16 CLK2, LVDSCLK2p (in), H1 CLK1, LVDSCLK1n (in), H16 CLK3, LVDSCLK2n (in)
part A text: BANK 1
part B text: BANK 2
part C text: BANK 3
part D text: BANK 4

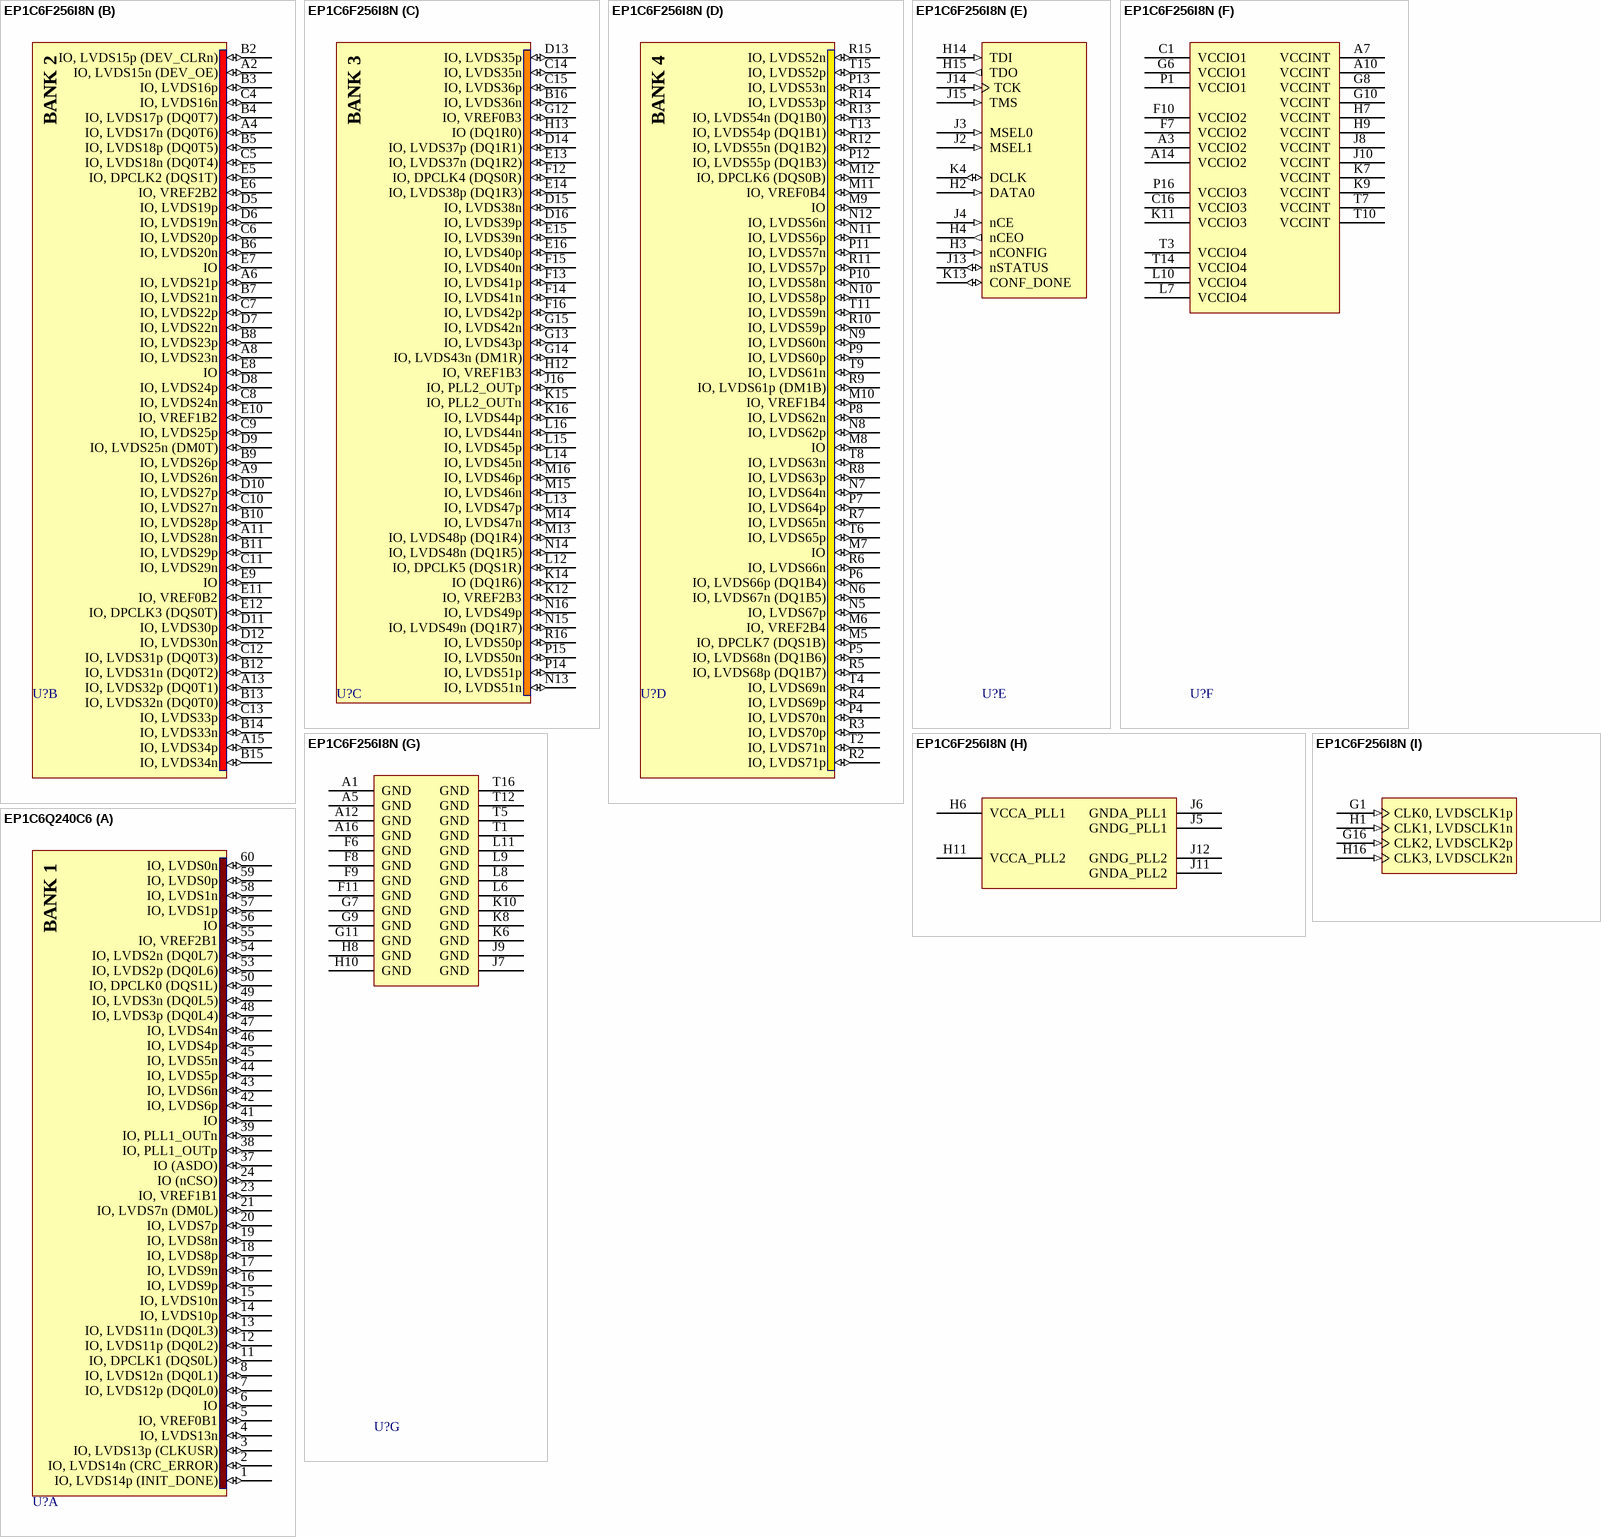
[diagram p59: symbols EP1C6F256I8N to EP1C6Q240C6]